# Altium schematic symbol library Nadim Altium Lib-Univ.SchLib: 387 symbols (part 1 of 2)
Pins are listed as number, name and electrical type; pins without a type are passive.

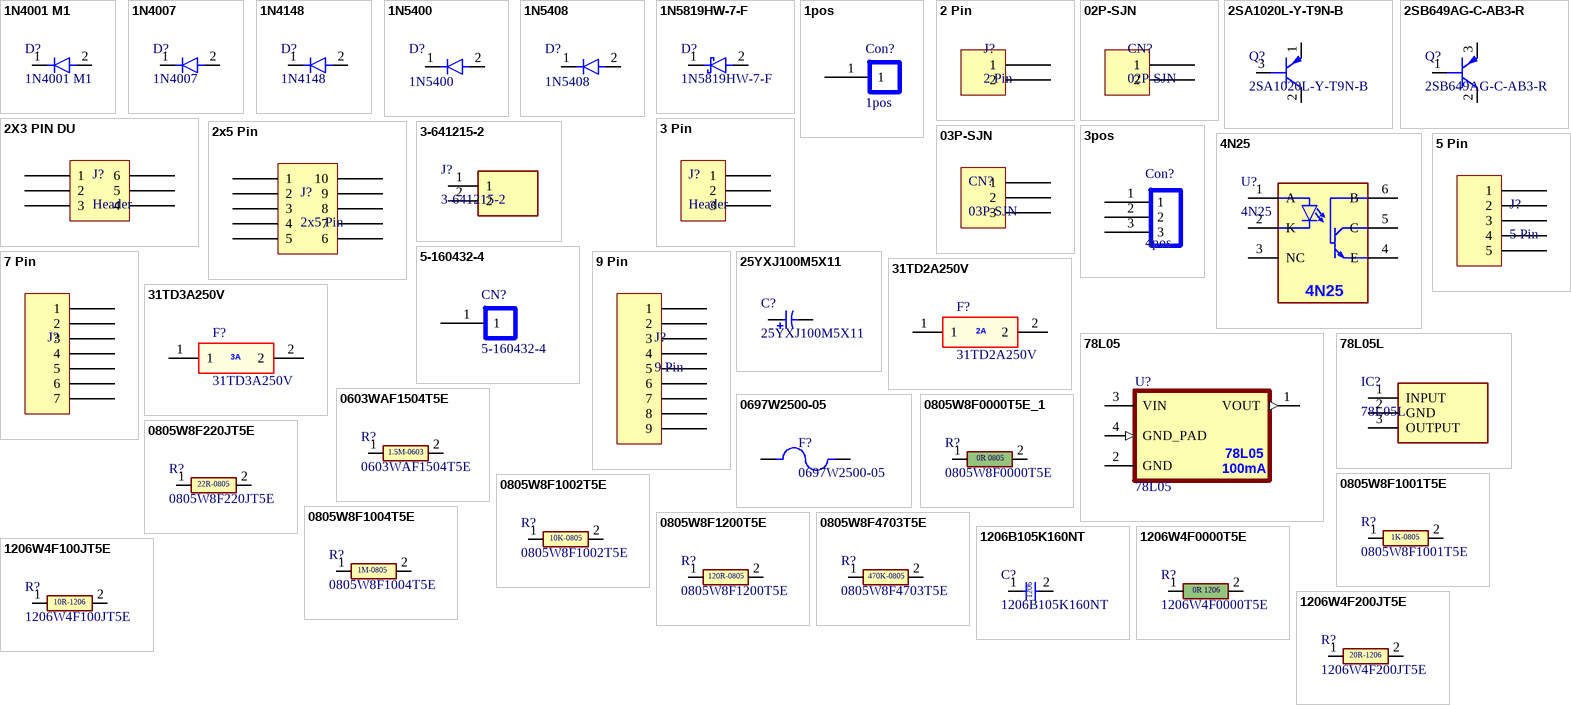
[diagram p0: symbols 1N4001 M1 to 1206W4F200JT5E]

## 1N4001 M1
designator D?
DIODE: SMD 1A 1V@1A 50V SMA Diodes - General Purpose ROHS; LCSC Part #: C20754789
footprint SOD-123F-2 (SODFL3617X108N)
pins: 1, 2

## 1N4007
designator D?
DIODE: GEN SMALL SGNL DIODE DO35 100V 175C / DO-35; Manufacturer: ON Semiconductor / Fairchild; Manufacturer Part Number: 1N4148; Forward Current: 300mA; Reverse Recovery Time: 4ns; Max Reverse Current: 5uA; Value: 4pF; Polarity: Standard; Current Rating: 200mA; Peak Non-Repetitive Surge Current: 4A; Supplier: Digikey; Supplier Part Number: 1N4148FS-ND; RoHS: Yes; Category: Rectifier Diodes; Stock: 271545; Pricing: 1=0.1, 10=0.039, 100=0.0261, 500=0.01972, 1000=0.0175, 2000=0.01557, 5000=0.0134, 10000=0.01202, 50000=0.00953 (USD); Mounting Technology: Through Hole; Case/Package: DO-35; Pins: 2; Min Operating Temperature: -65°C; Max Operating Temperature: 175°C; Packaging: Bulk; Max Repetitive Reverse Voltage (Vrrm): 100V; Voltage Rating (DC): 100V; Output Current: 200mA; Voltage: 100V; Current: 4A; Diameter: 1.91mm; Length: 4.56mm; Width: 1.91mm; Height: 1.91mm; RoHS Compliant: Yes; LCSC PART #: Lead Free; ComponentLink1URL: https://datasheet.ciiva.com/27049/743285-27049708.pdf?src-supplier=Jameco; ComponentLink1Description: https://datasheet.ciiva.com/27049/743285-27049708.pdf?src-supplier=Jameco
footprint DO-35-2
pins: 1, 2

## 1N4148
designator D?
DIODE: GEN SMALL SGNL DIODE DO35 100V 175C / DO-35; Manufacturer: ON Semiconductor / Fairchild; Forward Current: 300mA; Reverse Recovery Time: 4ns; Max Reverse Current: 5uA; Value: 4pF; Polarity: Standard; Current Rating: 200mA; Peak Non-Repetitive Surge Current: 4A; Supplier: Digikey; Supplier Part Number: 1N4148FS-ND; Manufacturer Part Number: 1N4148; RoHS: Yes; Category: Rectifier Diodes; Stock: 271545; Pricing: 1=0.1, 10=0.039, 100=0.0261, 500=0.01972, 1000=0.0175, 2000=0.01557, 5000=0.0134, 10000=0.01202, 50000=0.00953 (USD); Mounting Technology: Through Hole; Case/Package: DO-35; Pins: 2; Min Operating Temperature: -65°C; Max Operating Temperature: 175°C; Packaging: Bulk; Max Repetitive Reverse Voltage (Vrrm): 100V; Voltage Rating (DC): 100V; Output Current: 200mA; Voltage: 100V; Current: 4A; Diameter: 1.91mm; Length: 4.56mm; Width: 1.91mm; Height: 1.91mm; RoHS Compliant: Yes; LCSC PART #: Lead Free; ComponentLink1URL: https://datasheet.ciiva.com/27049/743285-27049708.pdf?src-supplier=Jameco; ComponentLink1Description: https://datasheet.ciiva.com/27049/743285-27049708.pdf?src-supplier=Jameco
pins: 1, 2

## 1N5400
designator D?
DIODE: GEN 3A 1V@3A 1kV DO-201AD TH; LCSC PART #: C5359861
footprint DO-201AD TH
pins: 1, 2

## 1N5408
designator D?
DIODE: GEN 3A 1.2V@3A 1kV DO-201AD TH; LCSC PART #: C36138
footprint DO-201AD TH
pins: 1, 2

## 1N5819HW-7-F
designator D?
DIODE: SCHOTTKY 40V 450mV@1A 1A SOD-123 Schottky Diodes ROHS; LCSC PART #: C82544
footprint SOD-123F-2 (SODFL3617X108N)
pins: 1, 2

## 1pos
designator Con?
footprint 1pos
pins: 1

## 2 Pin
designator J?
pins: 1, 2

## 02P-SJN
designator CN?
HOUSING: 2mm 1x2P 2 1 P=2mm Housings (Wire To Board / Wire To Wire ) ROHS; LCSC Part #: C398486
pins: 1, 2

## 2SA1020L-Y-T9N-B
designator Q?
TRANSISTOR TH: PNP 50V 900mW 2A PNP Bipolar (BJT) / TO-92-3; LCSC PART #: C2848652
footprint TO-92-3
pins: 1 E, 2 C, 3 B

## 2SB649AG-C-AB3-R
designator Q?
TRANSISTOR SMD: PNP 160V 500mW 1A PNP Bipolar (BJT) / SOT-89; LCSC PART #: C87883
footprint SOT-89
pins: 1 B, 2 C, 3 E

## 2X3 PIN DU
designator J?, comment Header
footprint LS-2.57 2*3
pins: 1, 2, 3, 4, 5, 6

## 2x5 Pin
designator J?
footprint 2*5 PIN (Pitch 2.54 mm, THT, Vertical, dual row, 10p)
pins: 1, 2, 3, 4, 5, 6, 7, 8, 9, 10

## 3 Pin
designator J?, comment Header
pins: 1, 2, 3

## 3-641215-2
designator J?
HEADER: JST 2P 2.54MM; Manufacturer_Name: TE Connectivity; Datasheet Link: http://www.te.com/usa-en/product-3-641215-2.html#guest-click; Height: 8.128mm; Manufacturer_Part_Number: 3-641215-2; Mouser Part Number: 571-3-641215-2; Mouser Price/Stock: https://www.mouser.co.uk/ProductDetail/TE-Connectivity-AMP/3-641215-2?qs=KRfK61YovsgAMFXR0HUBMw%3D%3D; Arrow Part Number: 3-641215-2; Arrow Price/Stock: https://www.arrow.com/en/products/3-641215-2/te-connectivity?region=europe
footprint JST 2P 2.54MM
pins: 1, 2

## 03P-SJN
designator CN?
HOUSING: 1*3P 2mm JST; LCSC Part #: C398485
pins: 1, 2, 3

## 3pos
designator Con?, comment 4pos
P2.54mm
footprint 3pos
pins: 1, 2, 3

## 4N25
designator U?
OPTO:; LCSC PART #: C3014309
pins: 1 A, 2 K, 3 NC, 4 E, 5 C, 6 B

## 5 Pin
designator J?
pins: 1, 2, 3, 4, 5

## 5-160432-4
designator CN?
HOUSING CONTACT: BATTERY CONNECTOR FEMALE; LCSC Part #: C392632
pins: 1

## 7 Pin
designator J?
pins: 1, 2, 3, 4, 5, 6, 7

## 9 Pin
designator J?
pins: 1, 2, 3, 4, 5, 6, 7, 8, 9

## 25YXJ100M5X11
designator C?
CAP: ALUM 100uF 25V 400mΩ@100kHz ±20% 250mA@100kHz Plugin,D5xL11mm Aluminum Electrolytic Capacitors - Leaded ROHS; LCSC Part #: C108360
footprint CAP LS-1.5mm D4 H5
pins: 1, 2

## 31TD2A250V
designator F?
FUSE:  2A Plugin,3.6x10mm Disposable fuses ROHS; LCSC Part #: C529609
footprint Fuse FAN LS-15.8MM (31TD2A250V)
pins: 1, 2
text: 2A

## 31TD3A250V
designator F?
FUSE:  3A Plugin,3.6x10mm Disposable fuses ROHS
footprint Fuse FAN LS-15.8MM (31TD2A250V)
pins: 1, 2
text: 3A

## 78L05
designator U?
LDO: 100mA Fixed 5V Positive electrode 30V SOT-89-3, LDO; LCSC PART #: C347258
footprint SOT89R
pins: 1 VOUT, 2 GND, 3 VIN (power), 4 GND_PAD
text: 100mA

## 78L05L
designator IC?
IC: LDO TH
footprint LM7805  TO254
pins: 1 INPUT, 2 GND, 3 OUTPUT

## 0603WAF1504T5E
designator R?
RES: 1.5M OHM 1% 0.125W 75V 0603; LCSC Part #: C4172
footprint 0805+0603 RES FP
pins: 1, 2
text: 1.5M-0603

## 0697W2500-05
designator F?
Fuse LS-5.08mm 100A 2.5A 350V 72V Plugin Disposable fuses ROHS; LCSC Part #: C3163271
footprint Fuse LS-5.08 (100A 2.5A 350V 72V Plugin Disposable fuses ROHS)
pins: 1, 2

## 0805W8F0000T5E_1
designator R?, comment 0805W8F0000T5E
RES: 0R JUMPER 1/4W 0805; LCSC Part #: C17477
footprint 0805-RES
pins: 1, 2
text: 0R 0805

## 0805W8F220JT5E
designator R?
RES: 22 OHM 1% 1/8W 0805; LCSC Part #: C17561
footprint 0805-RES
pins: 1, 2
text: 22R-0805

## 0805W8F1001T5E
designator R?
RES: 1K OHM 1% 1/8W 0805; LCSC Part #: C17513
footprint 0805-RES
pins: 1, 2
text: 1K-0805

## 0805W8F1002T5E
designator R?
RES: 10K OHM 1% 1/8W 0805; LCSC PART #: C17414
footprint 0805-RES
pins: 1, 2
text: 10K-0805

## 0805W8F1004T5E
designator R?
RES: 1M OHM 1% .150V 0805; LCSC Part #: C17514
footprint 0805-RES
pins: 1, 2
text: 1M-0805

## 0805W8F1200T5E
designator R?
RES: 120 OHM 1% 1/8W 0805; LCSC PART #: C17437
footprint 0805-RES
pins: 1, 2
text: 120R-0805

## 0805W8F4703T5E
designator R?
RES: 470K OHM 1% 1/8W 0805; LCSC Part #: C17709
footprint 0805-RES
pins: 1, 2
text: 470K-0805

## 1206B105K160NT
designator C?
CAP: 1uF 16V 10% X7R 1206; LCSC Part #: C913959
footprint 1206-CAP
pins: 1, 2
text: 1206

## 1206W4F0000T5E
designator R?
RES: 0R JUMPER 1/4W 1206; LCSC Part #: C17888
footprint 1206-RES
pins: 1, 2
text: 0R 1206

## 1206W4F100JT5E
designator R?
RES: 10 OHM 1% 1/4W 1206; LCSC PART #: C17903
footprint 1206-RES
pins: 1, 2
text: 10R-1206

## 1206W4F200JT5E
designator R?
RES: 20 OHM 1% 1/4W 1206; LCSC Part #: C17955
footprint 1206-RES
pins: 1, 2
text: 20R-1206

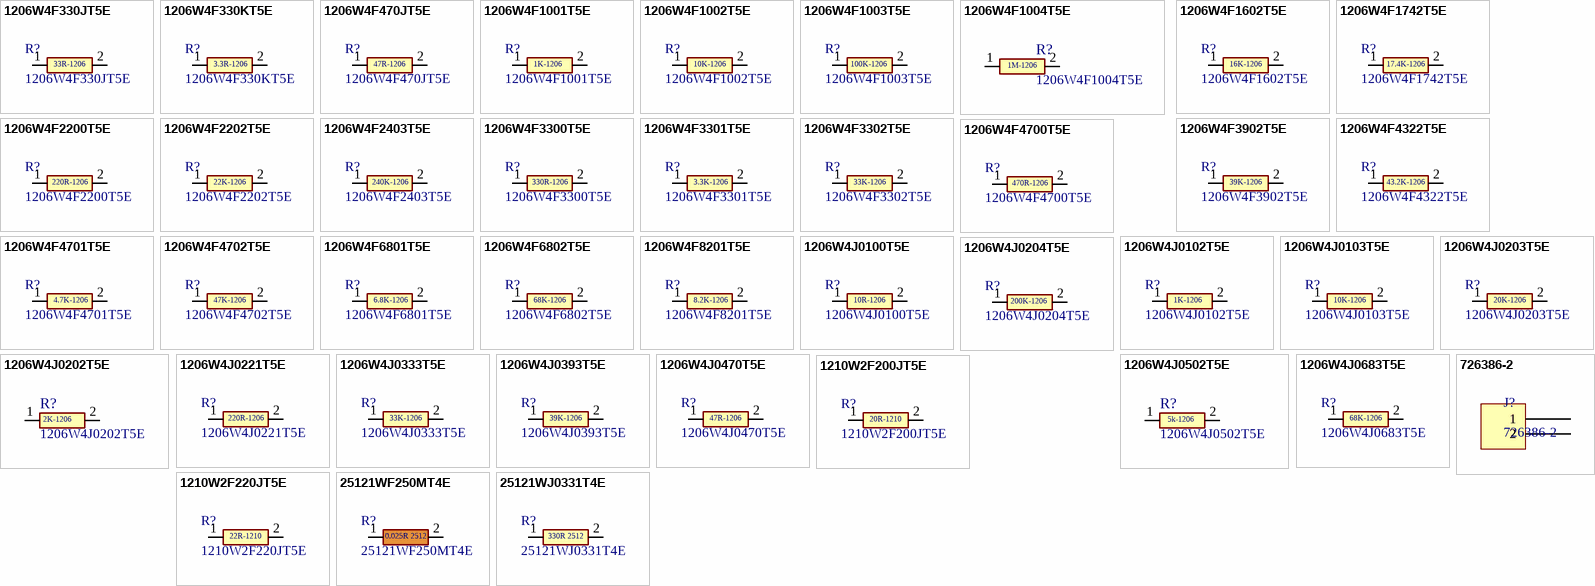
[diagram p1: symbols 1206W4F330JT5E to 726386-2]

## 1206W4F330JT5E
designator R?
RES: 33 OHM 1% 1/4W 1206; LCSC Part #: C18005
footprint 1206-RES
pins: 1, 2
text: 33R-1206

## 1206W4F330KT5E
designator R?
RES: 3.3 OHM 1% 1/4W 1206; LCSC Part #: C17945
footprint 1206-RES
pins: 1, 2
text: 3.3R-1206

## 1206W4F470JT5E
designator R?
RES: 47 OHM 1% 1/4W 1206; LCSC Part #: C17969
footprint 1206-RES
pins: 1, 2
text: 47R-1206

## 1206W4F1001T5E
designator R?
RES: 1K OHM 1% 1/4W / 1206; LCSC Part #: C4410
footprint 1206-RES
pins: 1, 2
text: 1K-1206

## 1206W4F1002T5E
designator R?
RES: 10K OHM 1% 1/4W 1206; LCSC PART #: C17902
footprint 1206-RES
pins: 1, 2
text: 10K-1206

## 1206W4F1003T5E
designator R?
RES: 100K OHM 1% 1/4W 1206; LCSC Part #: C17900
footprint 1206-RES
pins: 1, 2
text: 100K-1206

## 1206W4F1004T5E
designator R?
RES: 1MΩ 1% 1/4W 200V 1206; LCSC Part #: C17927
footprint 1206-RES
pins: 1, 2
text: 1M-1206

## 1206W4F1602T5E
designator R?
RES: 16K Ω 1% 1/4W 1206; LCSC Part #: C25829
footprint 1206-RES
pins: 1, 2
text: 16K-1206

## 1206W4F1742T5E
designator R?
RES: 17.4K Ω 1% 1/4W 1206; LCSC Part #: C247365
footprint 1206-RES
pins: 1, 2
text: 17.4K-1206

## 1206W4F2200T5E
designator R?
RES: 220 OHM 1% 1/4W 1206; LCSC PART #: C17957
footprint 1206-RES
pins: 1, 2
text: 220R-1206

## 1206W4F2202T5E
designator R?
RES: 22K OHM 1% 1/4W 1206; LCSC Part #: C25830
footprint 1206-RES
pins: 1, 2
text: 22K-1206

## 1206W4F2403T5E
designator R?
RES: 240K OHM 1% 1/4W 1206; LCSC Part #: C18001
footprint 1206-RES
pins: 1, 2
text: 240K-1206

## 1206W4F3300T5E
designator R?
RES: 330 OHM 1% 1/4W 1206; LCSC Part #: C17930
footprint 1206-RES
pins: 1, 2
text: 330R-1206

## 1206W4F3301T5E
designator R?
RES: 3.3K OHM 1% 1/4W 1206; LCSC Part #: C26032
footprint 1206-RES
pins: 1, 2
text: 3.3K-1206

## 1206W4F3302T5E
designator R?
RES: 33K OHM 1% 1/4W 1206; LCSC Part #: C18004
footprint 1206-RES
pins: 1, 2
text: 33K-1206

## 1206W4F3902T5E
designator R?
RES: 39K OHM 1% 1/4W 1206; LCSC Part #: C18008
footprint 1206-RES
pins: 1, 2
text: 39K-1206

## 1206W4F4322T5E
designator R?
RES: 43.2K OHM 1% 1/4W 1206; LCSC Part #: C17966
footprint 1206-RES
pins: 1, 2
text: 43.2K-1206

## 1206W4F4700T5E
designator R?
RES: 470 OHM 1% 1/4W 1206; LCSC Part #: C4502
footprint 1206-RES
pins: 1, 2
text: 470R-1206

## 1206W4F4701T5E
designator R?
RES: 4.7K OHM 1% 1/4W 1206; LCSC Part #: C17936
footprint 1206-RES
pins: 1, 2
text: 4.7K-1206

## 1206W4F4702T5E
designator R?
RES: 47K OHM 1% 1/4W 1206; LCSC Part #: C25833
footprint 1206-RES
pins: 1, 2
text: 47K-1206

## 1206W4F6801T5E
designator R?
RES: 6.8k OHM 1% 1/4W 1206; LCSC Part #: C26034
footprint 1206-RES
pins: 1, 2
text: 6.8K-1206

## 1206W4F6802T5E
designator R?
RES: 68K OHM 1% 1/4W 1206; LCSC Part #: C25834
footprint 1206-RES
pins: 1, 2
text: 68K-1206

## 1206W4F8201T5E
designator R?
RES: 8.2K OHM 1% 1/4W 1206; LCSC Part #: C18027
footprint 1206-RES
pins: 1, 2
text: 8.2K-1206

## 1206W4J0100T5E
designator R?
RES: 10 OHM 5% 1/4W 1206; LCSC PART #: C25349
footprint 1206-RES
pins: 1, 2
text: 10R-1206

## 1206W4J0102T5E
designator R?
RES: 1K OHM 5% 1/4W 1206; LCSC Part #: C1469
footprint 1206-RES
pins: 1, 2
text: 1K-1206

## 1206W4J0103T5E
designator R?
RES: 10K OHM 5% 1/4W 1206; LCSC PART #: C1489
footprint 1206-RES
pins: 1, 2
text: 10K-1206

## 1206W4J0202T5E
designator R?
RES: 2K OHM 5% 1/4W 1206; LCSC Part #: C25657
footprint 1206-RES
pins: 1, 2
text: 2K-1206

## 1206W4J0203T5E
designator R?
RES: 20K OHM 5% 1/4W 1206; LCSC Part #: C25652
footprint 1206-RES
pins: 1, 2
text: 20K-1206

## 1206W4J0204T5E
designator R?
RES: 200K OHM 5% 1/4W 1206; LCSC Part #: C37862
footprint 1206-RES
pins: 1, 2
text: 200K-1206

## 1206W4J0221T5E
designator R?
RES: 220 OHM 5% 1/4W 1206; LCSC PART #: C25363
footprint 1206-RES
pins: 1, 2
text: 220R-1206

## 1206W4J0333T5E
designator R?
RES: 33K OHM 5% 1/4W 1206; LCSC Part #: C25660
footprint 1206-RES
pins: 1, 2
text: 33K-1206

## 1206W4J0393T5E
designator R?
RES: 39K OHM 5% 1/4W 1206; LCSC Part #: C270897
footprint 1206-RES
pins: 1, 2
text: 39K-1206

## 1206W4J0470T5E
designator R?
RES: 47 OHM 5% 1/4W 1206; LCSC Part #: C25384
footprint 1206-RES
pins: 1, 2
text: 47R-1206

## 1206W4J0502T5E
designator R?
RES: 5k OHM 5% 1/4W 1206; LCSC Part #: C2767987
footprint 1206-RES
pins: 1, 2
text: 5k-1206

## 1206W4J0683T5E
designator R?
RES: 68K OHM 5% 1/4W 1206; LCSC Part #: C25668
footprint 1206-RES
pins: 1, 2
text: 68K-1206

## 1210W2F200JT5E
designator R?
RES: 20 OHM 1% 1/4W 1210; LCSC Part #: C620667
footprint 1210-RES
pins: 1, 2
text: 20R-1210

## 1210W2F220JT5E
designator R?
RES: 22 OHM 1% 0.5W 1210; LCSC Part #: C99151
footprint 1210-RES
pins: 1, 2
text: 22R-1210

## 25121WF250MT4E
designator R?
RES: 0.025 OHM(25mR) 1% 1W 2512; LCSC Part #: C620826
footprint 2512 RES (RESC6432X70N)
pins: 1, 2
text: 0.025R 2512

## 25121WJ0331T4E
designator R?
RES: 330 OHM 1% 1W 2512; LCSC Part #: C19866
footprint 2512 RES (RESC6432X70N)
pins: 1, 2
text: 330R 2512

## 726386-2
designator J?
CONNECTOR: Plugin SMD Quick Terminal ROHS; LCSC Part #: C305817
footprint 2 Hole Pin Battery (1.5mm)
pins: 1, 2

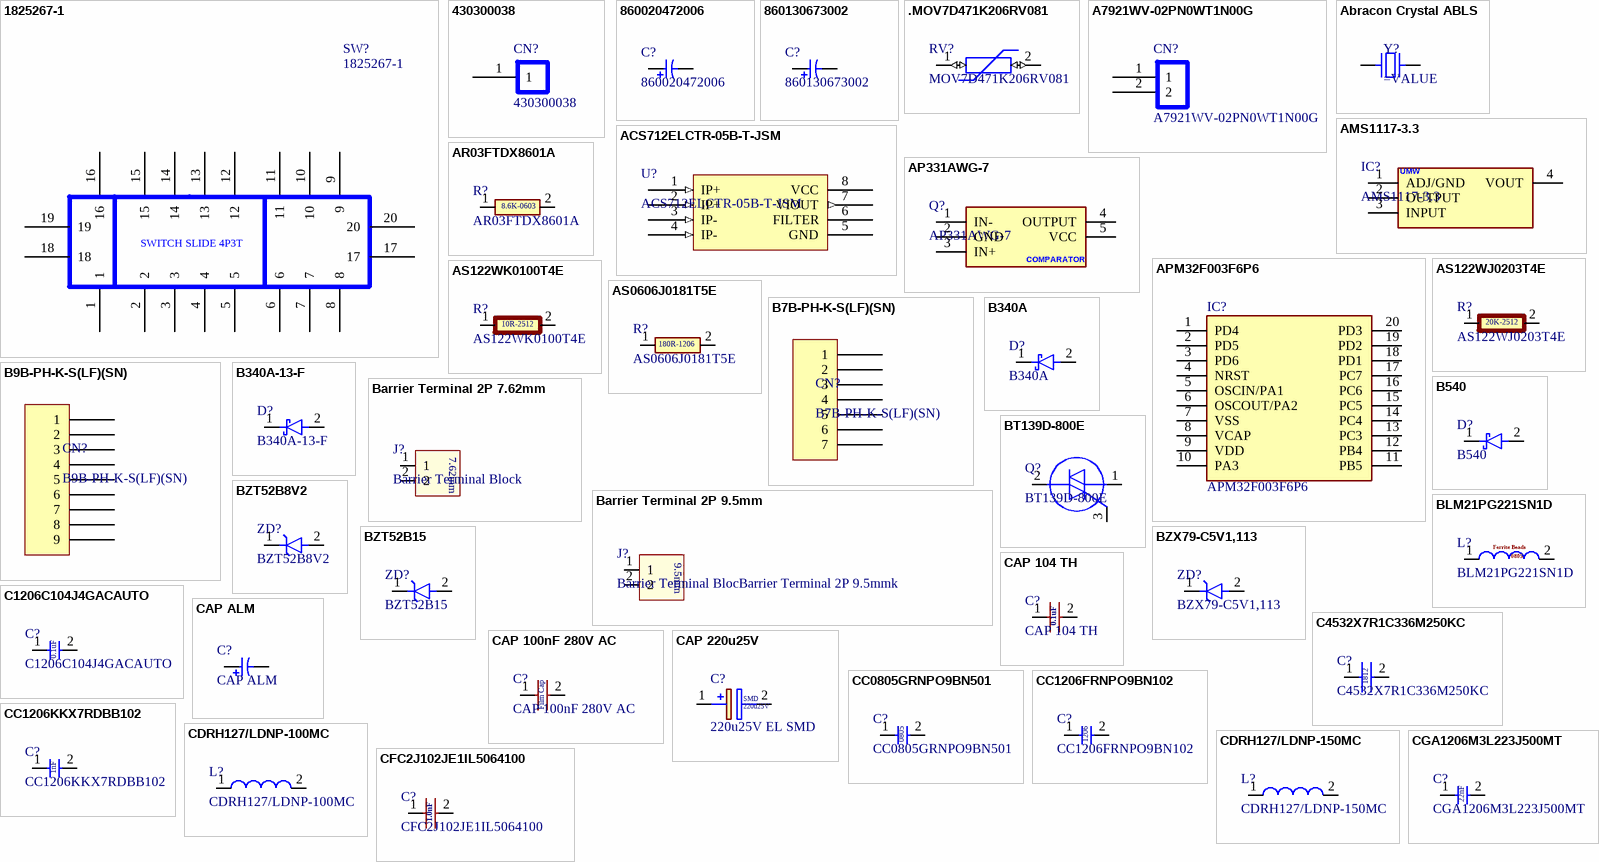
[diagram p2: symbols 1825267-1 to CGA1206M3L223J500MT]

## 1825267-1
designator SW?
SWITCH SLIDE 4P3T 300MA 125V
footprint SW SLIDE 4P3T (SWITCH SLIDE 4P3T 300MA 125V)
pins: 1, 2, 3, 4, 5, 6, 7, 8, 9, 10, 11, 12, 13, 14, 15, 16, 17, 18, 19, 20
text: SWITCH SLIDE 4P3T

## 430300038
designator CN?
CONTACT HOUSING : 18 AWG; LCSC Part #: C259772
pins: 1

## 860020472006
designator C?
CAP: ALUM 47UF 20% 25V RADIAL TH / LS-2.0mm D5 H12.5
footprint CAP LS-2.0mm D5 H7 (CAP LS-2mm D5)
pins: N, P

## 860130673002
designator C?
CAP: ALUM 22UF 20% 50V RADIAL TH / LS-2.5mm D6.3 H12.5; ComponentLink1Description: New link; ComponentLink1URL: *
footprint CAP LS-2.5mm D6.3 H7
pins: N, P

## .MOV7D471K206RV081
designator RV?, comment MOV7D471K206RV081
47 V 250 A Varistor 1 Circuit Through Hole Disc 7mm; LCSC Part #: C22390367
footprint .MOV-07DXXXK(3.9T)
pins: 1 (io), 2 (io)

## A7921WV-02PN0WT1N00G
designator CN?
CONNECTOR: 1x2P 2P 1 7.92mm 7A; LCSC Part #: C476952
footprint LS-7.92*2
pins: 1, 2

## Abracon Crystal ABLS
designator Y?
SMT Crystal
pins: 1, 2

## ACS712ELCTR-05B-T-JSM
designator U?
IC SENSOR: 5A SOP-8 Current Sensors ROHS; LCSC Part #: C19673779
footprint SOP-8 (SOIC127P650X180-8N)
pins: 1 IP+ (in), 2 IP+ (in), 3 IP- (in), 4 IP- (in), 5 GND (power), 6 FILTER, 7 VIOUT (out), 8 VCC (power)

## AMS1117-3.3
designator IC?
LDO: REG 3.3V 1A SOT223; LCSC PART #: C347222
footprint SOT-223 SMD
pins: 1 ADJ/GND, 2 OUTPUT, 3 INPUT, 4 VOUT
text: UMW

## AP331AWG-7
designator Q?
IC COMPARATOR 1 GEN PUR SOT25-5; LCSC Part #: C151034
footprint SOT-25-5
pins: 1 IN-, 2 GND, 3 IN+, 4 OUTPUT, 5 VCC
text: COMPARATOR

## APM32F003F6P6
designator IC?
MCU: 32KB ARM-MSeries 4KB 32KB TSSOP-20 Microcontroller Units (MCUs/MPUs/SOCs) ROHS; LCSC Part #: C22388660
footprint TSSOP-20
pins: 1 PD4, 2 PD5, 3 PD6, 4 NRST, 5 OSCIN/PA1, 6 OSCOUT/PA2, 7 VSS (power), 8 VCAP, 9 VDD (power), 10 PA3, 11 PB5, 12 PB4, 13 PC3, 14 PC4, 15 PC5, 16 PC6, 17 PC7, 18 PD1, 19 PD2, 20 PD3

## AR03FTDX8601A
designator R?
RES: 8.6K OHM 1% 100mW / 0603; LCSC Part #: C2924154
footprint 0805+0603 RES FP
pins: 1, 2
text: 8.6K-0603

## AS122WJ0203T4E
designator R?
RES: 20K OHM 5% 2W, 500V 2512; LCSC Part #: C2770485
footprint 2512 RES (RESC6432X70N)
pins: 1, 2
text: 20K-2512

## AS122WK0100T4E
designator R?
RES: 10 OHM 10% 2W, 500V / 2512; LCSC Part #: C2770565
footprint 2512 RES (RESC6432X70N)
pins: 1, 2
text: 10R-2512

## AS0606J0181T5E
designator R?
RES: 180R 5% 0.6W / 1206; LCSC Part #: C966077
footprint 1206-RES
pins: 1, 2
text: 180R-1206

## B7B-PH-K-S(LF)(SN)
designator CN?
CONNECTOR: 1x7P 7P PH Tin 7 -25℃~+85℃ 2A 1 2mm Brass Direct Insert Plugin,P=2mm Wire To Board Connector ROHS; LCSC Part #: C157981
footprint JST B7B-PH-K (2.0mm)
pins: 1, 2, 3, 4, 5, 6, 7

## B9B-PH-K-S(LF)(SN)
designator CN?
CONNECTOR: 1x9P 9P PH Tin 9 -25℃~+85℃ 2A 1 2mm Brass Direct Insert Plugin,P=2mm Wire To Board Connector ROHS; LCSC Part #: C157968
pins: 1, 2, 3, 4, 5, 6, 7, 8, 9

## B340A
designator D?
DIODE: SCHOTTKY 40V 550mV@3A 3A SMA(DO-214AC); LCSC PART #: C64982
footprint SMA (DO-214AC)
pins: 1, 2

## B340A-13-F
designator D?
DIODE: SCHOTTKEY 40V 500mV@3A 3A SMA(DO-214AC); LCSC Part #: C85098
footprint SMA (DO-214AC)
pins: 1, 2

## B540
designator D?
DIODE: SCHOTTKY 40V 550mV@5A 5A / SMC(DO-214AB); LCSC PART #: C6807783
footprint SMC (DO-214AB)
pins: 1, 2

## Barrier Terminal 2P 7.62mm
designator J?, comment Barrier Terminal Block
TERMINAL: 1x2P Corner pin Barrier Block 2 1 7.62mm -40℃~+105℃ 20A 300V Black 12~22 Straight pin Plugin,P=7.62mm; LCSC Part #: C496127
footprint Barrier Terminal 2P (7.62mm)
pins: 1, 2
text: 7.62mm

## Barrier Terminal 2P 9.5mm
designator J?, comment Barrier Terminal BlocBarrier Terminal 2P 9.5mmk
TERMINAL: 1x2P Corner pin Barrier Block 2 1 9.5mm -40℃~+105℃ 20A 300V Black 12~22 Straight pin Plugin,P=7.62mm; LCSC Part #: C395958
footprint Barrier Terminal 2P 9.5mm (7.62mm)
pins: 1, 2
text: 9.5mm

## BLM21PG221SN1D
designator L?
Ferrite Beads: 45mΩ ±25% 220Ω@100MHz 0805 Ferrite Beads ROHS; LCSC Part #: C85840
footprint Ferrite Beads 0805 (Ferrite Beads)
pins: 1, 2
text: Ferrite Beads; 0805

## BT139D-800E
designator Q?
Triac A: 60mA 50mA 800V TO-252 Thyristors (SCR)/Modules ROHS; LCSC Part #: C20617907
footprint TO-263-2 SMD
pins: 1 A1, 2 A2, 3 G

## BZT52B8V2
designator ZD?
DIODE: ZENER 8.2-8.36 V 500mW SOD-123; LCSC Part #: C2904811
footprint SOD-123F-2 (SODFL3617X108N)
pins: 1, 2

## BZT52B15
designator ZD?
DIODE: ZENER 14.7-15.3V 500mW SOD-123; LCSC Part #: C22395570
footprint SOD-123F-2 (SODFL3617X108N)
pins: 1, 2

## BZX79-C5V1,113
designator ZD?
DIODE: ZENER 5.1V DO-204AH(DO-35) Zener Diodes ROHS
footprint DO-35-2
pins: 1, 2

## C1206C104J4GACAUTO
designator C?
CAP: CER 1uF 16V  ±5% 1206; LCSC Part #: C5565983
footprint 1206-CAP
pins: 1, 2
text: 0.1uF

## C4532X7R1C336M250KC
designator C?
CAP: CER 33UF 16V X7R 1812; Manufacturer: TDK; Material: 4241ConductorMaterial; Supplier: Digikey; Supplier Part Number: 445-3924-1-ND; Manufacturer Part Number: C4532X7R1C336M250KC; RoHS: Yes; Category: Ceramic Capacitors; Stock: 28478; Pricing: 1=1.29, 10=0.969, 50=0.8838, 100=0.724 (USD); ComponentLink1URL: https://datasheet.ciiva.com/24216/c4532x7r1c336m250kc-265670-24216445.pdf?src-supplier=Mouser; ComponentLink1Description: https://datasheet.ciiva.com/24216/c4532x7r1c336m250kc-265670-24216445.pdf?src-supplier=Mouser; ComponentLink2URL: https://datasheet.ciiva.com/11788/0900766b80c1bb00-11788320.pdf?src-supplier=Rs; ComponentLink2Description: https://datasheet.ciiva.com/11788/0900766b80c1bb00-11788320.pdf?src-supplier=Rs; ComponentLink3URL: https://datasheet.ciiva.com/28563/1571323-28563083.pdf?src-supplier=Element14; ComponentLink3Description: https://datasheet.ciiva.com/28563/1571323-28563083.pdf?src-supplier=Element14; ComponentLink4URL: https://datasheet.ciiva.com/7878/1571323-7878142.pdf?src-supplier=Element14; ComponentLink4Description: https://datasheet.ciiva.com/7878/1571323-7878142.pdf?src-supplier=Element14; ComponentLink5URL: https://datasheet.ciiva.com/6284/tdkmlcccaprange-6284343.pdf?src-supplier=Digikey; ComponentLink5Description: https://datasheet.ciiva.com/6284/tdkmlcccaprange-6284343.pdf?src-supplier=Digikey; ComponentLink6URL: https://datasheet.ciiva.com/6284/tdkmlcccaprange-6284345.pdf?src-supplier=Digikey; ComponentLink6Description: https://datasheet.ciiva.com/6284/tdkmlcccaprange-6284345.pdf?src-supplier=Digikey; ComponentLink7URL: https://datasheet.ciiva.com/6284/tdkmlcccaprange-6284346.pdf?src-supplier=Digikey; ComponentLink7Description: https://datasheet.ciiva.com/6284/tdkmlcccaprange-6284346.pdf?src-supplier=Digikey; ComponentLink8URL: https://datasheet.ciiva.com/26834/getdatasheetpartid-707642-26834503.pdf?src-supplier=Verical; ComponentLink8Description: https://datasheet.ciiva.com/26834/getdatasheetpartid-707642-26834503.pdf?src-supplier=Verical
footprint 1812-CAP
pins: 1, 2
text: 1812

## CAP 100nF 280V AC
designator C?
CAP: Film 100NF(0.1uF) 280V AC / LS-15MM
footprint CAP 470nF 275V AC
pins: 1, 2
text: Film Cap

## CAP 104 TH
designator C?
CAP CER: 0.1uF TH, LS-5MM
pins: 1, 2
text: 0.1uF

## CAP 220u25V
designator C?, comment 220u25V EL SMD
CAP SMD: 220uF 25V; LCSC PART #: C4747974
footprint CAP SMD D6.3XL7.7MM FP
pins: 1 +, 2 -
text: SMD; 220u25V

## CAP ALM
designator C?
CAP: ALUM
footprint CAP LS-1.5mm D4 H5
pins: 1, 2

## CC0805GRNPO9BN501
designator C?
CAP CER: 50V 500pF C0G ±2% 0805; LCSC Part #: C3885951
footprint 0805-CAP
pins: 1, 2
text: 0805

## CC1206FRNPO9BN102
designator C?
CAP CER: 50V 1nF NP0 ±1% 1206; LCSC Part #: C541590
footprint 1206-CAP
pins: 1, 2
text: 1206

## CC1206KKX7RDBB102
designator C?
CAP: CER 1KV 1nF ±5% 1206; LCSC Part #: C23631
footprint 1206-CAP
pins: 1, 2
text: 1nF

## CDRH127/LDNP-100MC
designator L?
INDUCTOR: 10UH 6.7A 19.5MOHM SM / SMD LS-10MM D12X12; LCSC PART #: C167261
footprint INDUCTOR LS-10 D12X12 (INDUCTOR 12X12, 10MM)
pins: 1, 2

## CDRH127/LDNP-150MC
designator L?
INDUCTOR: 15UH 5.65A 26.4MOHM SM / SMD LS-10MM D12X12; Manufacturer: Sumida; Core Material: Ferrite; Tolerance: 20%; Shielding: Shielded; DC Resistance (DCR): 26.4mR; Test Frequency: 1kHz; Max DC Current: 4.5A; Supplier: Digikey; Supplier Part Number: 308-1333-1-ND; Manufacturer Part Number: CDRH127/LDNP-150MC; RoHS: Yes; Category: Fixed Inductors; Stock: 116662; Pricing: 1=1.32, 10=1.024, 25=0.9256, 50=0.8576, 100=0.7944, 250=0.7178 (USD); Mounting Technology: Surface Mount; Case/Package: Nonstandard; Min Operating Temperature: -40°C; Max Operating Temperature: 100°C; Packaging: Tape and Reel; Package Quantity: 500; Value: 15UH; Termination: SMD/SMT; DC Current: 5.65A; Series: CDRH127/LD; Length: 12.3mm; Width: 12.3mm; Height: 8mm; Depth: 12.3mm; Radiation Hardening: No; Military Standard: Not; Lead Free: Lead Free; ComponentLink1URL: https://datasheet.ciiva.com/18168/getdatasheetpartid-355115-18168734.pdf?src-supplier=Verical; ComponentLink1Description: https://datasheet.ciiva.com/18168/getdatasheetpartid-355115-18168734.pdf?src-supplier=Verical
footprint INDUCTOR LS-10 D12X12 (INDUCTOR 12X12, 10MM)
pins: 1, 2

## CFC2J102JE1IL5064100
designator C?
CAP Film: 1nF 630V ±5% Plugin,P=10mm Polypropylene Film Capacitors (CBB) / LS-10mm; LCSC Part #: C2763985
footprint Film Capacitor LS-10MM
pins: 1, 2
text: 1.0nF

## CGA1206M3L223J500MT
designator C?
CAP: CER 22nF 50V 5% 1206; LCSC Part #: C22440587
footprint 1206-CAP
pins: 1, 2
text: 22nF

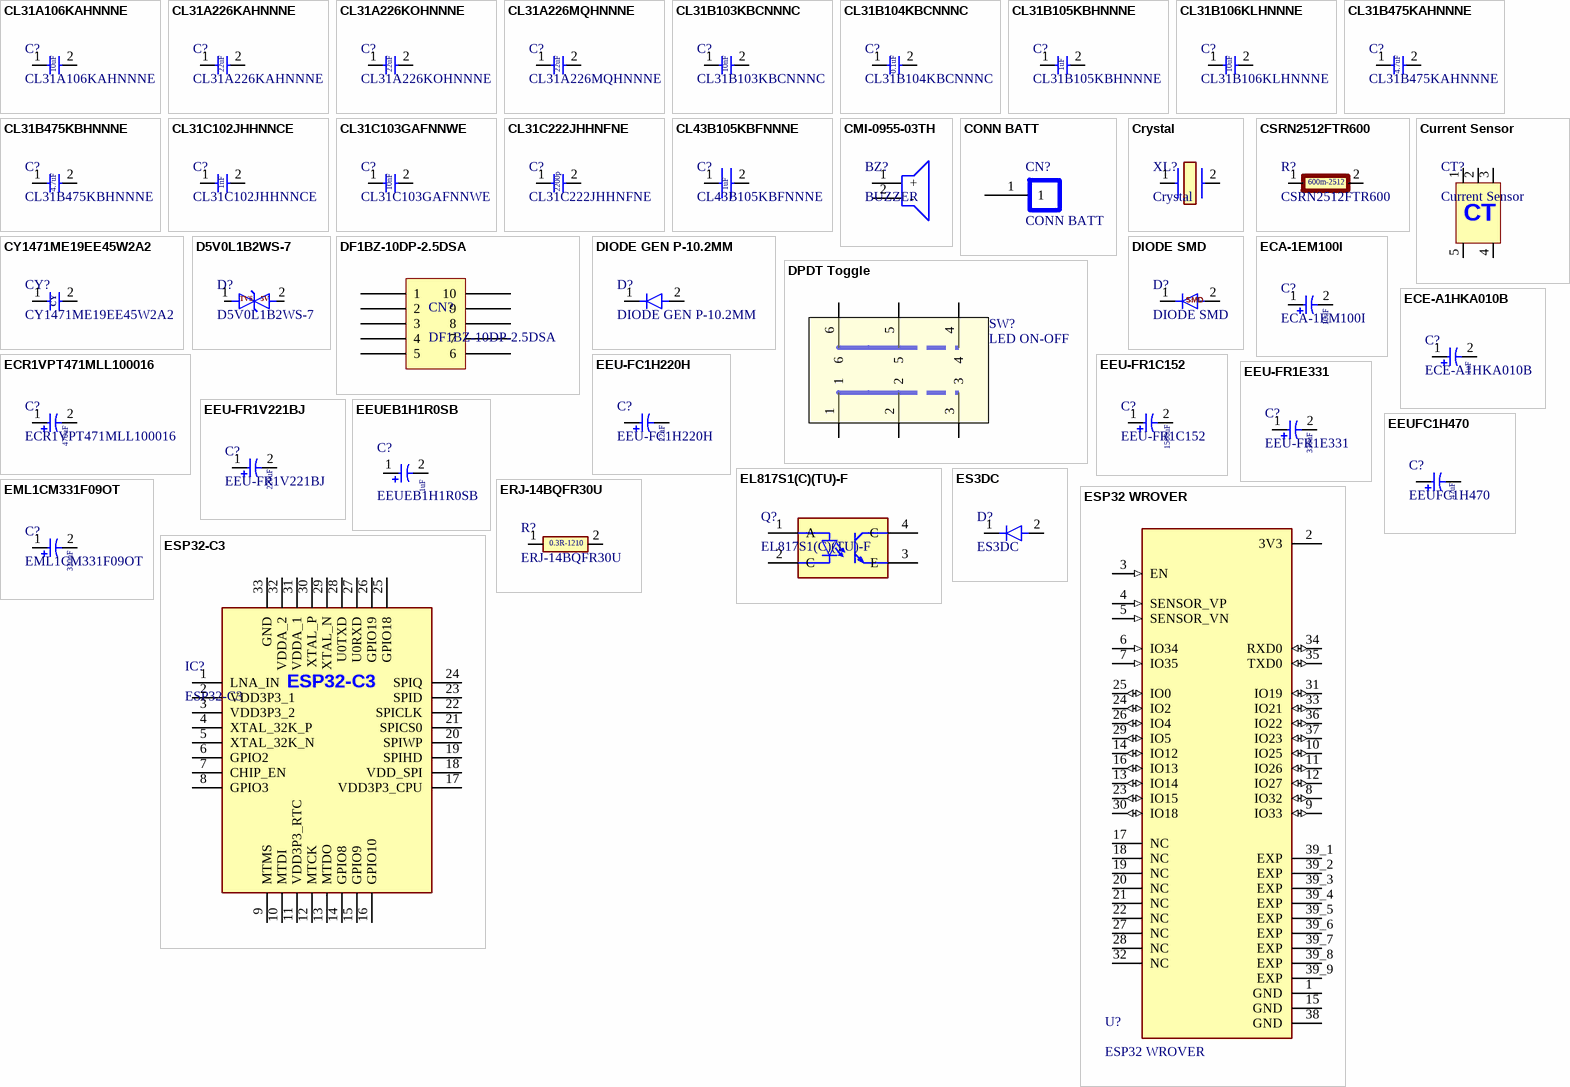
[diagram p3: symbols CL31A106KAHNNNE to ESP32-C3]

## CL31A106KAHNNNE
designator C?
CAP: CER 10UF 50V X7R 1206; Manufacturer: Samsung; Material: Ceramic; Tolerance: 10%; Voltage: 25V; Dielectric: X5R; Supplier: Digikey; Supplier Part Number: 1276-1075-1-ND; Manufacturer Part Number: CL31A106KAHNNNE; RoHS: Yes; Category: Ceramic Capacitors; Stock: 497736; Pricing: 1=0.19, 10=0.122, 50=0.077, 100=0.0615, 500=0.04444, 1000=0.03931 (USD); Mounting Technology: Surface Mount; Case/Package: 1206; Case Code (Metric): 3216; Case Code (Imperial): 1206; Min Operating Temperature: -55°C; Max Operating Temperature: 85°C; Value: 10uF; Voltage Rating (DC): 25V; Packaging: Tape and Reel; Voltage Rating: 25V; Series: CL; Construction: Flat; Length: 3.2mm; Height: 1.6mm; Depth: 1.6mm; Radiation Hardening: No; Lead Free: Lead Free; RoHS Compliant: Yes; ComponentLink1URL: https://datasheet.ciiva.com/25710/cl31a106kahnnne-25710837.pdf?src-supplier=Digikey; ComponentLink1Description: https://datasheet.ciiva.com/25710/cl31a106kahnnne-25710837.pdf?src-supplier=Digikey; ComponentLink2URL: https://datasheet.ciiva.com/15195/getdatasheetpartid-355210-15195990.pdf?src-supplier=Verical; ComponentLink2Description: https://datasheet.ciiva.com/15195/getdatasheetpartid-355210-15195990.pdf?src-supplier=Verical
footprint 1206-CAP
pins: 1, 2

## CL31A226KAHNNNE
designator C?
CAP: CER 22UF 25V X5R 1206; Manufacturer: Samsung; Material: Ceramic; Tolerance: 10%; Supplier: Digikey; Supplier Part Number: 1276-3047-1-ND; Manufacturer Part Number: CL31A226KAHNNNE; RoHS: Yes; Category: Ceramic Capacitors; Stock: 1267713; Pricing: 1=0.36, 10=0.239, 50=0.1758, 100=0.1432, 500=0.11304, 1000=0.09545 (USD); Mounting Technology: Surface Mount; Case/Package: 1206; Case Code (Metric): 3216; Case Code (Imperial): 1206; Min Operating Temperature: -55°C; Max Operating Temperature: 85°C; Value: 22uF; Dielectric: X5R; Voltage Rating (DC): 25V; Packaging: Tape and Reel; Voltage Rating: 25V; Series: CL; Construction: Flat; Length: 3.2mm; Height: 1.6mm; Depth: 1.6mm; Radiation Hardening: No; RoHS Compliant: Yes; ComponentLink1URL: https://datasheet.ciiva.com/16437/cl31a226kahnnne-16437213.pdf?src-supplier=Future+Electronics; ComponentLink1Description: https://datasheet.ciiva.com/16437/cl31a226kahnnne-16437213.pdf?src-supplier=Future+Electronics; ComponentLink2URL: https://datasheet.ciiva.com/26838/getdatasheetpartid-359658-26838860.pdf?src-supplier=Verical; ComponentLink2Description: https://datasheet.ciiva.com/26838/getdatasheetpartid-359658-26838860.pdf?src-supplier=Verical; ComponentLink3URL: https://datasheet.ciiva.com/25766/cl31a226kahnnne-25766608.pdf?src-supplier=Digikey; ComponentLink3Description: https://datasheet.ciiva.com/25766/cl31a226kahnnne-25766608.pdf?src-supplier=Digikey; ComponentLink4URL: https://datasheet.ciiva.com/29201/452249-da-01-en-vs-kondensator-1206-29201336.pdf?src-supplier=Conrad; ComponentLink4Description: https://datasheet.ciiva.com/29201/452249-da-01-en-vs-kondensator-1206-29201336.pdf?src-supplier=Conrad
footprint 1206-CAP
pins: 1, 2

## CL31A226KOHNNNE
designator C?
CAP: CER 22UF 16V X5R 1206; LCSC Part #: C90146
footprint 1206-CAP
pins: 1, 2
text: 22uF

## CL31A226MQHNNNE
designator C?
CAP: CER 22UF 6.3V X5R 1206; Manufacturer: Samsung; Supplier: Digikey; Supplier Part Number: 1276-1771-1-ND; Manufacturer Part Number: CL31A226MQHNNNE; RoHS: Yes; Category: Ceramic Capacitors; Stock: 555198; Pricing: 1=0.17, 10=0.113, 50=0.0796, 100=0.0642, 500=0.04772, 1000=0.04175 (USD); ComponentLink1URL: https://datasheet.ciiva.com/25711/cl31a226mqhnnne-25711296.pdf?src-supplier=Digikey; ComponentLink1Description: https://datasheet.ciiva.com/25711/cl31a226mqhnnne-25711296.pdf?src-supplier=Digikey; ComponentLink2URL: https://datasheet.ciiva.com/16427/cl31a226mqhnnne-16427681.pdf?src-supplier=Future+Electronics; ComponentLink2Description: https://datasheet.ciiva.com/16427/cl31a226mqhnnne-16427681.pdf?src-supplier=Future+Electronics
footprint 1206-CAP
pins: 1, 2
text: 22uF

## CL31B103KBCNNNC
designator C?
CAP: CER 10NF 50V X7R 1206; LCSC PART #: C153292
footprint 1206-CAP
pins: 1, 2
text: 10nF

## CL31B104KBCNNNC
designator C?
CAP: CER 0.1UF 50V X7R 1206 / 10%; LCSC Part #: C24497
footprint 1206-CAP
pins: 1, 2
text: 0.1uF

## CL31B105KBHNNNE
designator C?
CAP: CER 1UF 50V X7R 1206; LCSC Part #: C1848
footprint 1206-CAP
pins: 1, 2
text: 1uF

## CL31B106KLHNNNE
designator C?
CAP: CER 10UF 35V X7R 1206; LCSC Part #: C16195875
footprint 1206-CAP
pins: 1, 2
text: 10uF

## CL31B475KAHNNNE
designator C?
CAP: CER 4.7UF 25V X7R 1206
footprint 1206-CAP
pins: 1, 2
text: 4.7uF

## CL31B475KBHNNNE
designator C?
CAP: CER 4.7UF 50V X7R 1206; LCSC Part #: C51205
footprint 1206-CAP
pins: 1, 2
text: 4.7uF

## CL31C102JHHNNCE
designator C?
CAP: CER 1NF 630V C0G/NP0 1206; LCSC Part #: C3853144
footprint 1206-CAP
pins: 1, 2
text: 1nF

## CL31C103GAFNNWE
designator C?
CAP: CER 10NF 25V C0G/NP0 1206; Manufacturer: Samsung; Supplier: Digikey; Supplier Part Number: 1276-3211-1-ND; Manufacturer Part Number: CL31C103GAFNNWE; Case/Package: 1206; ComponentLink1URL: https://datasheet.ciiva.com/25791/cl31c103gafnnwe-25791738.pdf?src-supplier=Digikey; ComponentLink1Description: https://datasheet.ciiva.com/25791/cl31c103gafnnwe-25791738.pdf?src-supplier=Digikey
footprint 1206-CAP
pins: 1, 2
text: 10nF

## CL31C222JHHNFNE
designator C?
CAP: CER 2200PF 630V C0G/NP0 1206; LCSC Part #: C3832138
footprint 1206-CAP
pins: 1, 2
text: 2200p

## CL43B105KBFNNNE
designator C?
CAP: CER 1UF 50V X7R 1812; Manufacturer: Samsung; Material: Ceramic; Tolerance: 10%; Supplier: Digikey; Supplier Part Number: 1276-3359-1-ND; Manufacturer Part Number: CL43B105KBFNNNE; RoHS: Yes; Category: Ceramic Capacitors; Stock: 750; Pricing: 1=1.39, 10=1.046, 50=0.9542, 100=0.7817, 500=0.62386 (USD); Mounting Technology: Surface Mount; Case/Package: 1812; Case Code (Metric): 4532; Case Code (Imperial): 1812; Min Operating Temperature: -55°C; Max Operating Temperature: 125°C; Value: 1uF; Dielectric: X7R; Packaging: Tape and Reel; Voltage Rating: 50V; Voltage: 50V; Voltage Rating (DC): 50V; Series: CL; Construction: Flat; Length: 4.5mm; Height: 1.25mm; Depth: 3.2mm; Radiation Hardening: No; Lead Free: Lead Free; RoHS Compliant: Yes; ComponentLink1URL: https://datasheet.ciiva.com/25769/cl43b105kbfnnne-25769286.pdf?src-supplier=Digikey; ComponentLink1Description: https://datasheet.ciiva.com/25769/cl43b105kbfnnne-25769286.pdf?src-supplier=Digikey; ComponentLink2URL: https://datasheet.ciiva.com/16429/cl43b105kbfnnne-16429001.pdf?src-supplier=Future+Electronics; ComponentLink2Description: https://datasheet.ciiva.com/16429/cl43b105kbfnnne-16429001.pdf?src-supplier=Future+Electronics; ComponentLink3URL: https://datasheet.ciiva.com/29149/450376-da-01-en-vs-kondensator-1812-29149045.pdf?src-supplier=Conrad; ComponentLink3Description: https://datasheet.ciiva.com/29149/450376-da-01-en-vs-kondensator-1812-29149045.pdf?src-supplier=Conrad
footprint 1812-CAP
pins: 1, 2

## CMI-0955-03TH
designator BZ?, comment BUZZER
Buzzer: 3.3V Dia-9mm, LS-5MM
footprint Buzzer LS-5MM
pins: 1 +, 2 -

## CONN BATT
designator CN?
BATTERY CONNECTOR PAD
footprint 1pos
pins: 1

## Crystal
designator XL?
Crystal or Oscillator: 16.666 MHz
footprint Crystal P4.9mm
pins: 1, 2

## CSRN2512FTR600
designator R?
RES: 600m OHM 1% 2W / 2512; LCSC Part #: C2522641
footprint 2512 RES (RESC6432X70N)
pins: 1, 2
text: 600m-2512

## Current Sensor
designator CT?
Transformer: LS-9mm, 12mm, 4.5mm
pins: 1, 2, 3, 4, 5
text: CT

## CY1471ME19EE45W2A2
designator CY?
CAP Safety: 470pF ±20% Y1 400V Plugin,P=10mm Safety Capacitors / LS-10mm; LCSC Part #: C2857401
footprint JN471K LS-10MM (JN471K)
pins: 1, 2
text: CY

## D5V0L1B2WS-7
designator D?
DIODE TVS: 5V WM 14VC Voltage - Breakdown (Min) 6V / SOD323; LCSC Part #: C7529144
footprint SOD-323-2
pins: 1, 2
text: TVS; 5V

## DF1BZ-10DP-2.5DSA
designator CN?
CONNECTOR :2x5P 10P 2 Tin 2.5mm 2.5mm; LCSC Part #: C506701
footprint 2*5 PIN (Pitch 2.54 mm, THT, Vertical, dual row, 10p)
pins: 1, 2, 3, 4, 5, 6, 7, 8, 9, 10

## DIODE GEN P-10.2MM
designator D?
DIODE: GEN P-10.2MM
pins: 1, 2

## DIODE SMD
designator D?
DIODE: DIODE SMD
footprint SMBF (DO-214AA)
pins: 1, 2
text: SMD

## DPDT Toggle
designator SW?, comment LED ON-OFF
SW Vertical Slide Switch DPDT 6 Terminal
footprint SW DPDT (DPDT 6 TERMINAL)
pins: 1, 2, 3, 4, 5, 6

## ECA-1EM100I
designator C?
CAP: ALUM 10UF 20% 25V RADIAL TH / LS 2.5mm / Dia 5mm; Manufacturer: Panasonic; Supplier: Digikey; Supplier Part Number: 10-ECA-1EM100ICT-ND; Manufacturer Part Number: ECA-1EM100I; RoHS: Yes; Category: Aluminum Electrolytic Capacitors; Stock: 8383; Pricing: 1=0.19, 10=0.11, 50=0.0774, 100=0.0673, 500=0.05018, 1000=0.04486 (USD); ComponentLink1URL: https://datasheet.ciiva.com/105/eca-xxmspec-105822.pdf?src-supplier=Digikey; ComponentLink1Description: https://datasheet.ciiva.com/105/eca-xxmspec-105822.pdf?src-supplier=Digikey
footprint CAP LS-2.5mm D5.5 H11 (CAP LS-2.54mm D5.5)
pins: 1, 2
text: 10uF

## ECE-A1HKA010B
designator C?
CAP: ALUM 1UF 20% 50V RADIAL TH / LS 5mm / Dia 4mm; Manufacturer: Panasonic; Ripple Current: 10mA; Life (Hours): 1000Hour; Supplier: Digikey; Supplier Part Number: 10-ECE-A1HKA010BTB-ND; Manufacturer Part Number: ECE-A1HKA010B; RoHS: Yes; Category: Aluminum Electrolytic Capacitors; Pricing: 6000=0.04141 (USD); Mounting Technology: Through Hole; Min Operating Temperature: -40°C; Max Operating Temperature: 85°C; Value: 1uF; Tolerance: 20%; Packaging: Ammo Pack; Package Quantity: 2000; Voltage Rating (DC): 50V; Termination: Radial; Series: KA; Diameter: 4mm; Length: 7mm; Height: 7mm; Lead Pitch: 5mm; Radiation Hardening: No; RoHS Compliant: Yes; ComponentLink1URL: https://datasheet.ciiva.com/24029/a-e-461514-24029598.pdf?src-supplier=Mouser; ComponentLink1Description: https://datasheet.ciiva.com/24029/a-e-461514-24029598.pdf?src-supplier=Mouser; ComponentLink2URL: https://datasheet.ciiva.com/11681/aba0000ce20-11681259.pdf?src-supplier=Avnet; ComponentLink2Description: https://datasheet.ciiva.com/11681/aba0000ce20-11681259.pdf?src-supplier=Avnet
footprint CAP LS-2.5mm D4 H5
pins: 1, 2

## ECR1VPT471MLL100016
designator C?
CAP: ALUM 470UF 20% 35V RADIAL TH; ComponentLink1URL: https://datasheet.ciiva.com/106/aba0000ce26-106653.pdf?src-supplier=Digikey; ComponentLink1Description: https://datasheet.ciiva.com/106/aba0000ce26-106653.pdf?src-supplier=Digikey; ComponentLink2URL: https://datasheet.ciiva.com/11679/aba0000ce26-11679994.pdf?src-supplier=Avnet; ComponentLink2Description: https://datasheet.ciiva.com/11679/aba0000ce26-11679994.pdf?src-supplier=Avnet; LCSC Part #: C190968
footprint CAP LS-3.5mm D8 H11 (CAP LS-3.5mm D8)
pins: 1, 2
text: 470uF

## EEU-FC1H220H
designator C?
CAP: ALUM 22UF 20% 50V RADIAL TH / LS-2.5mm D6.3 H11 / mfg: PANASONIC; LCSC Part #: C1580725
footprint CAP LS-2.5mm D5.5 H11 (CAP LS-2.54mm D5.5)
pins: 1, 2
text: 22uF

## EEU-FR1C152
designator C?
CAP: ALUM 1500UF 20% 16V RADIAL / LS-5, D10, H20; Manufacturer: Panasonic; Dielectric Material: Aluminium; Value: 1.5mF; Ripple Current: 2.18A; ESR (Equivalent Series Resistance): 20mR; Life (Hours): 10000Hour; Lead/Base Style: Straight; Leakage Current: 240uA; Dissipation Factor: 16%; Lead Diameter: 0.6mm; Supplier: Digikey; Supplier Part Number: P14399-ND; Manufacturer Part Number: EEU-FR1C152; RoHS: Yes; Category: Aluminum Electrolytic Capacitors; Stock: 91; Pricing: 1=1.03, 10=0.638, 50=0.4792, 100=0.4297, 500=0.34526, 1000=0.31889, 2500=0.29088, 5000=0.27387 (USD); Mounting Technology: Through Hole,PCB; Case/Package: Radial; Pins: 2; Min Operating Temperature: -40°C; Max Operating Temperature: 105°C; Tolerance: 20%; Packaging: Bulk; Voltage Rating: 16V; Voltage Rating (DC): 16V; Package Quantity: 200; Impedance: 20mR; Termination: Radial; Voltage: 16V; Series: FR; Construction: RADIAL; Diameter: 10mm; Length: 20mm; Height: 20mm; Lead Pitch: 5mm; Radiation Hardening: No; Lead Free: Lead Free; Reach SVHC Compliant: No; RoHS Compliant: Yes; ComponentLink1URL: https://datasheet.ciiva.com/11778/0900766b80e4e9bf-11778301.pdf?src-supplier=Rs; ComponentLink1Description: https://datasheet.ciiva.com/11778/0900766b80e4e9bf-11778301.pdf?src-supplier=Rs; ComponentLink2URL: https://datasheet.ciiva.com/46445/535408-46445692.pdf?src-supplier=Element14; ComponentLink2Description: https://datasheet.ciiva.com/46445/535408-46445692.pdf?src-supplier=Element14; ComponentLink3URL: https://datasheet.ciiva.com/15940/aba0000ce132-15940825.pdf?src-supplier=Onlinecomponents.com; ComponentLink3Description: https://datasheet.ciiva.com/15940/aba0000ce132-15940825.pdf?src-supplier=Onlinecomponents.com; ComponentLink4URL: https://datasheet.ciiva.com/16387/aba0000ce132-16387612.pdf?src-supplier=Future+Electronics; ComponentLink4Description: https://datasheet.ciiva.com/16387/aba0000ce132-16387612.pdf?src-supplier=Future+Electronics
footprint CAP LS-5.0mm D10 H12.5 (CAP LS-5mm D10)
pins: 1, 2
text: 1500uF

## EEU-FR1E331
designator C?
CAP: ALUM 330UF 20% 25V RADIAL TH / LS-3.5mm D8 H13
footprint CAP LS-3.5mm D8 H11 (CAP LS-3.5mm D8)
pins: 1, 2
text: 330uF

## EEU-FR1V221BJ
designator C?
CAP: ALUM 220UF 20% 35V RADIAL TH / LS-5mm D8 H13; LCSC Part #: C5114356
footprint CAP LS-5.0mm D8 H11.5
pins: 1, 2
text: 220uF

## EEUEB1H1R0SB
designator C?
CAP: ALUM 1UF 20% 50V RADIAL / LS 5mm / Dia 5mm; MP: EEU-EB1H1R0SB; MF: Panasonic Electronic Components; Package: RADIAL-2 Panasonic; Price: None; Availability: Not in stock; Check_prices: https://www.snapeda.com/parts/EEU-EB1H1R0SB/Panasonic/view-part/6222296/?ref=eda; SnapEDA_Link: https://www.snapeda.com/parts/EEU-EB1H1R0SB/Panasonic/view-part/6222296/?ref=snap; Value: *
footprint CAP LS-5.0mm D8 H11.5
pins: 1, 2
text: 1uF

## EEUFC1H470
designator C?
CAP: ALUM 47UF 20% 50V RADIAL TH Lead / LS-2.0mm D56.3 H11.2; LCSC Part #: C242141
footprint CAP LS-2.0mm D5 H7 (CAP LS-2mm D5)
pins: 1, 2
text: 47uF

## EL817S1(C)(TU)-F
designator Q?
OPTO: 35V 5kV 50mA 1 9V 1.2V SMD-4P Transistor, Photovoltaic Output Optoisolators ROHS; LCSC PART #: C106900
footprint PC817C SMD-4P (SMD-4P)
pins: 1 A, 2 C, 3 E, 4 C

## EML1CM331F09OT
designator C?
CAP: ALUM 330UF 20% 16V RADIAL TH / LS-3.5mm D8 H13; LCSC Part #: C106445
footprint CAP LS-3.5mm D8 H11 (CAP LS-3.5mm D8)
pins: 1, 2
text: 330uF

## ERJ-14BQFR30U
designator R?
R_SEN: 0.3 OHM 1% 1/2W 1210
footprint 1210-RES
pins: 1, 2
text: 0.3R-1210

## ES3DC
designator D?
DIODE: GEN 3A 200V 1V@3A SMC(DO-214AB); LCSC PART #: C16235
footprint SMC (DO-214AB)
pins: 1, 2

## ESP32 WROVER
designator U?
ESP32: ESP32 WROVER
footprint ESP32-WROVER FP
pins: 1 GND (power), 2 3V3 (power), 3 EN (in), 4 SENSOR_VP (in), 5 SENSOR_VN (in), 6 IO34 (in), 7 IO35 (in), 8 IO32 (io), 9 IO33 (io), 10 IO25 (io), 11 IO26 (io), 12 IO27 (io), 13 IO14 (io), 14 IO12 (io), 15 GND (power), 16 IO13 (io), 17 NC, 18 NC, 19 NC, 20 NC, 21 NC, 22 NC, 23 IO15 (io), 24 IO2 (io), 25 IO0 (io), 26 IO4 (io), 27 NC, 28 NC, 29 IO5 (io), 30 IO18 (io), 31 IO19 (io), 32 NC, 33 IO21 (io), 34 RXD0 (io), 35 TXD0 (io), 36 IO22 (io), 37 IO23 (io), 38 GND (power), 39_1 EXP (power), 39_2 EXP (power), 39_3 EXP (power), 39_4 EXP (power), 39_5 EXP (power), 39_6 EXP (power), 39_7 EXP (power), 39_8 EXP (power), 39_9 EXP (power)

## ESP32-C3
designator IC?
SOC: RISC-V 160MHz QFN-32-EP(5x5) Microcontrollers (MCU/MPU/SOC) ROHS; LCSC Part #: C2838500
footprint QFN-32-EP(5x5) (ESP32-C3 QFN-32-EP(5x5))
pins: 1 LNA_IN, 2 VDD3P3_1, 3 VDD3P3_2, 4 XTAL_32K_P, 5 XTAL_32K_N, 6 GPIO2, 7 CHIP_EN, 8 GPIO3, 9 MTMS, 10 MTDI, 11 VDD3P3_RTC, 12 MTCK, 13 MTDO, 14 GPIO8, 15 GPIO9, 16 GPIO10, 17 VDD3P3_CPU, 18 VDD_SPI, 19 SPIHD, 20 SPIWP, 21 SPICS0, 22 SPICLK, 23 SPID, 24 SPIQ, 25 GPIO18, 26 GPIO19, 27 U0RXD, 28 U0TXD, 29 XTAL_N, 30 XTAL_P, 31 VDDA_1, 32 VDDA_2, 33 GND

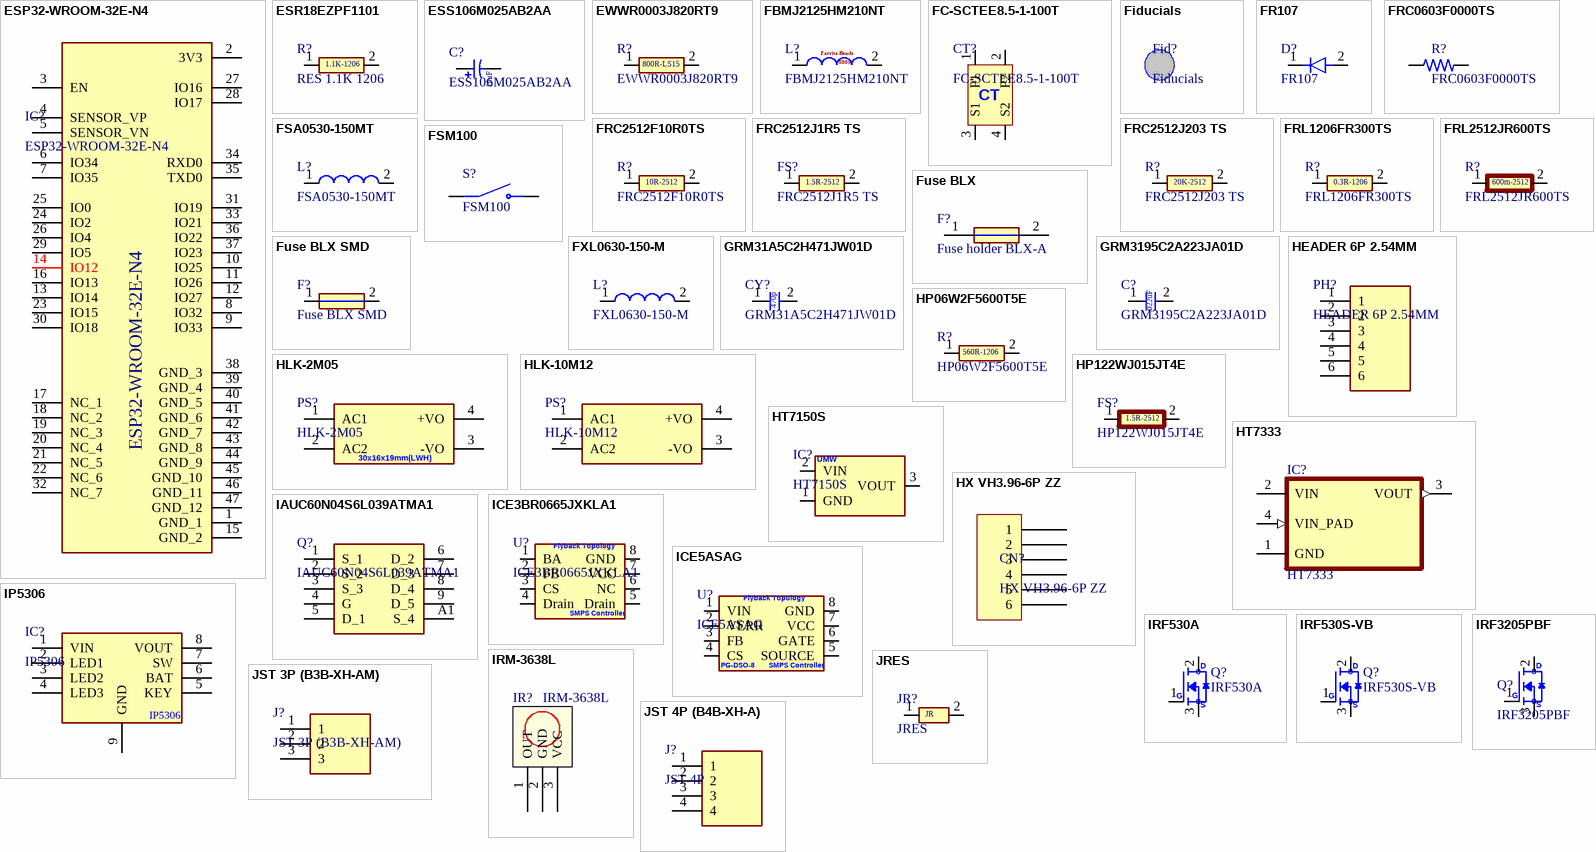
[diagram p4: symbols ESP32-WROOM-32E-N4 to JST 4P (B4B-XH-A)]

## ESP32-WROOM-32E-N4
designator IC?
ESP32: WiFi Modules ROHS; Manufacturer_Name: Espressif Systems; Datasheet Link: https://www.espressif.com/sites/default/files/documentation/esp32-wroom-32e_esp32-wroom-32ue_datasheet_en.pdf; Height: 3.25mm; Manufacturer_Part_Number: ESP32-WROOM-32E-N4; Mouser Part Number: 356-ESP32WRM32E132PH; Mouser Price/Stock: https://www.mouser.co.uk/ProductDetail/Espressif-Systems/ESP32-WROOM-32E-N4?qs=Li%252BoUPsLEnsPzTWsi%252BRMgQ%3D%3D; LCSC Part #: C701341
footprint ESP32WROOM32EN4
pins: 1 GND_1, 2 3V3, 3 EN, 4 SENSOR_VP, 5 SENSOR_VN, 6 IO34, 7 IO35, 8 IO32, 9 IO33, 10 IO25, 11 IO26, 12 IO27, 13 IO14, 14 IO12, 15 GND_2, 16 IO13, 17 NC_1, 18 NC_2, 19 NC_3, 20 NC_4, 21 NC_5, 22 NC_6, 23 IO15, 24 IO2, 25 IO0, 26 IO4, 27 IO16, 28 IO17, 29 IO5, 30 IO18, 31 IO19, 32 NC_7, 33 IO21, 34 RXD0, 35 TXD0, 36 IO22, 37 IO23, 38 GND_3, 39 GND_4, 40 GND_5, 41 GND_6, 42 GND_7, 43 GND_8, 44 GND_9, 45 GND_10, 46 GND_11, 47 GND_12

## ESR18EZPF1101
designator R?, comment RES 1.1K 1206
RES: 1.1K OHM 1% 1/2W 1206
footprint 1206-RES
pins: 1, 2
text: 1.1K-1206

## ESS106M025AB2AA
designator C?
CAP: ALUM 10UF 20% 25V RADIAL TH / LS 1.5mm / Dia 4mm; LCSC Part #: C1019530
footprint CAP LS-1.5mm D4 H5
pins: 1, 2
text: 10uF

## EWWR0003J820RT9
designator R?
RES: TH 820Ω 3 ±5% Plugin,D5.5xL15mm Through Hole Wirewound Resistors; LCSC Part #: C348937
footprint Res_TH 3W_LS20 - duplicate - duplicate (Res_TH 3W)
pins: 1, 2
text: 800R-LS15

## FBMJ2125HM210NT
designator L?
Ferrite Beads:
footprint Ferrite Beads
pins: 1, 2
text: Ferrite Beads; 0805

## FC-SCTEE8.5-1-100T
designator CT?
Transformer: CT 15A, LS-9mm, 19mm, 4mm; LCSC Part #: C2990853
pins: 1 P1, 2 P2, 3 S1, 4 S2
text: CT

## Fiducials
designator Fid?
footprint Fiducials

## FR107
designator D?
DIODE: FR 30V 1.3V@1A 500ns Independent Type 1A 1kV SOD-123FL Fast Recovery; LCSC Part #: C2902910
footprint SOD-123F-2 (SODFL3617X108N)
pins: 1, 2

## FRC0603F0000TS
designator R?
RES: 0 OHM 0603 1/4W; LCSC Part #: C2906974
footprint RRE: 0603
pins: 1, 2

## FRC2512F10R0TS
designator R?
RES: 10 OHM 1% 1W / 2512; LCSC Part #: C7467376
footprint 2512 RES (RESC6432X70N)
pins: 1, 2
text: 10R-2512

## FRC2512J1R5 TS
designator FS?
RES: 1.5 OHM 5% 1W 2512; LCSC Part #: C3013330
footprint 2512 RES (RESC6432X70N)
pins: 1, 2
text: 1.5R-2512

## FRC2512J203 TS
designator R?
RES: 20K OHM 1% 1W 2512; LCSC Part #: C2934096
footprint 2512 RES (RESC6432X70N)
pins: 1, 2
text: 20K-2512

## FRL1206FR300TS
designator R?
RES: 0.3OHM 1% 1/4W / 1206; LCSC Part #: C4410
footprint 1206-RES
pins: 1, 2
text: 0.3R-1206

## FRL2512JR600TS
designator R?
RES: 600m OHM 5% 1W / 2512; LCSC Part #: C7467376
footprint 2512 RES (RESC6432X70N)
pins: 1, 2
text: 600m-2512

## FSA0530-150MT
designator L?
INDUCTOR: 15uH 1.8A Integrated molded inductor ±20% 2.2A SMD,5.4x5.2mm; LCSC Part #: C41384342
footprint INDUCTOR D5.4X5.2
pins: 1, 2

## FSM100
designator S?
Alcoswitch FSM100-104, Tactile Switches, Round Actuator Style, Operating Function NO, Brass Contact Base Material; LCSC Part #: C6252471
footprint SW_1437565-2
pins: 1 COM, 2 COM, 3 NO, 4 NO

## Fuse BLX
designator F?, comment Fuse holder BLX-A
FUSE: 2A 20MM FUSE HOLDER; LCSC PART #: C3131
footprint Fuse BLX FP
footprint FUSE 20MM SMD SOLDER
pins: 1, 2

## Fuse BLX SMD
designator F?
FUSE: 2A 20MM FUSE HOLDER SMD; LCSC PART #: C3131
footprint FUSE 20MM SMD SOLDER
pins: 1, 2

## FXL0630-150-M
designator L?
INDUCTOR: 15UH 3A Integrated molded inductor ±20% 4.5A SMD,6.6x7mm; LCSC PART #: C177243
footprint INDUCTOR D6.6X7
pins: 1, 2

## GRM31A5C2H471JW01D
designator CY?
CAP: CER 470PF 500V C0G/NP0 1206; LCSC Part #: C408150
footprint 1206-CAP
pins: 1, 2
text: 470p

## GRM3195C2A223JA01D
designator C?
CAP: CER 0.022UF 100V C0GNP0 1206; LCSC Part #: C711005
footprint 1206-CAP
pins: 1, 2
text: .022uF

## HEADER 6P 2.54MM
designator PH?
HEADER: 6P 2.54MM FEMALE HEADER; LCSC PART #: C40877
footprint HEADER 6P 2.54MM FP
pins: 1, 2, 3, 4, 5, 6

## HLK-2M05
designator PS?
SMPS: 2W 5V Ultra-Compact Power Module HI LINK; LCSC PART #: C209909
footprint HLK-2M05
pins: 1 AC1, 2 AC2, 3 -VO, 4 +VO
text: 30x16x19mm(LWH)

## HLK-10M12
designator PS?
SMPS: 10W 833mA Ultra-Compact Power Module HI LINK; LCSC PART #: C403746
footprint HLK-10M12
pins: 1 AC1, 2 AC2, 3 -VO, 4 +VO

## HP06W2F5600T5E
designator R?
RES: 560 OHM 1% .5W 1206; LCSC Part #: C17966
footprint 1206-RES
pins: 1, 2
text: 560R-1206

## HP122WJ015JT4E
designator FS?
RES: 1.5 OHM 5% 2W 2512 300V; LCSC Part #: C2791233
footprint 2512 RES (RESC6432X70N)
pins: 1, 2
text: 1.5R-2512

## HT7150S
designator IC?
LDO: 100mA Fixed 5V Positive electrode 30V SOT-23; LCSC PART #: C347209
footprint SOT-23-3 - HT7150S
pins: 1 GND, 2 VIN, 3 VOUT
text: UMW

## HT7333
designator IC?
LDO: 300mA Fixed 3.3V Positive electrode 20V SOT-89; LCSC PART #: C19272223
footprint SOT89R
pins: 1 GND, 2 VIN (power), 3 VOUT, 4 VIN_PAD

## HX VH3.96-6P ZZ
designator CN?
CONN: 1x6P 1 VH 6P 3.96mm 6 7A Tin Phosphor Bronze Direct Insert Plugin,P=3.96mm Wire To Board Connector ROHS; LCSC Part #: C7435589
footprint LS-3.96*6
pins: 1, 2, 3, 4, 5, 6

## IAUC60N04S6L039ATMA1
designator Q?
MOSFET: N-CH 40 V 60A (Tc) 42W (Tc) / Package: PG-TDSON-8
footprint PG-TDSON-8
pins: 1 S_1, 2 S_2, 3 S_3, 4 G, 5 D_1, 6 D_2, 7 D_3, 8 D_4, 9 D_5, A1 S_4

## ICE3BR0665JXKLA1
designator U?
IC SMPS: OFFLINE SWITCH FLYBACK 8DIP; LCSC Part #: C3094647
footprint DIP-8 (DIP794W53P254L959H508Q8N)
pins: 1 BA, 2 FB, 3 CS, 4 Drain, 5 Drain, 6 NC, 7 VCC, 8 GND
text: Flyback Topology; SMPS Controller

## ICE5ASAG
designator U?
IC SMPS: OFFLINE SWITCH FLYBACK 8DSO/PG-DSO-8/SOIC-8; LCSC Part #: C535813
footprint SOIC-8N (SOIC127P600X175-8N)
pins: 1 VIN, 2 VERR, 3 FB, 4 CS, 5 SOURCE, 6 GATE, 7 VCC, 8 GND
text: Flyback Topology; PG-DSO-8; SMPS Controller

## IP5306
designator IC?
BAT Mng IC: Fully-Integrated Power Bank System-On-Chip with / 2.1A charger; LCSC PART #: C181692
footprint SOIC-8-EP
pins: 1 VIN, 2 LED1, 3 LED2, 4 LED3, 5 KEY, 6 BAT, 7 SW, 8 VOUT, 9 GND

## IRF530A
designator Q?
MOSFET: N-CH 100V 14A TO-220-3; LCSC Part #: C274639
footprint TO-220
pins: 1 G, 2 D, 3 S

## IRF530S-VB
designator Q?
MOSFET: 100V 20A 105W 3V 1 N-channel TO-263-2 MOSFETs ROHS; LCSC Part #: C693128
footprint TO-263-2 SMD
pins: 1 G, 2 D, 3 S

## IRF3205PBF
designator Q?
MOSFET: N Channel 55V 110A 8mΩ@10V,62A 200W 4V 1 N-channel TO-220AB MOSFETs ROHS; LCSC Part #: C2561
pins: 1 G, 2 D, 3 S

## IRM-3638L
designator IR?
IR: 6m 330uA 2.7V~5.5V SIP-3-2.54mm Infrared Remote Receiver (IRM) ROHS; LCSC Part #: C2936550
footprint IRM 3638L
pins: 1 OUT, 2 GND, 3 VCC

## JRES
designator JR?
footprint 1206-RES
pins: 1, 2
text: JR

## JST 3P (B3B-XH-AM)
designator J?
JST: 1x3P 3P XH Tin 3 -25℃~+85℃ 3A 1 2.5mm Brass Straight Plugin,P=2.5mm Wire To Board Connector ROHS; LCSC Part #: C161870
footprint JST 3P B3B-XH-AM (2.50mm)
pins: 1, 2, 3

## JST 4P (B4B-XH-A)
designator J?, comment JST 4P
JST: 4P, P=2.5mm Wire To Board Connector ROHS; LCSC Part #: C144395
footprint JST 4P (B4B-XH-A) (JST 4P P2.54mm)
pins: 1, 2, 3, 4

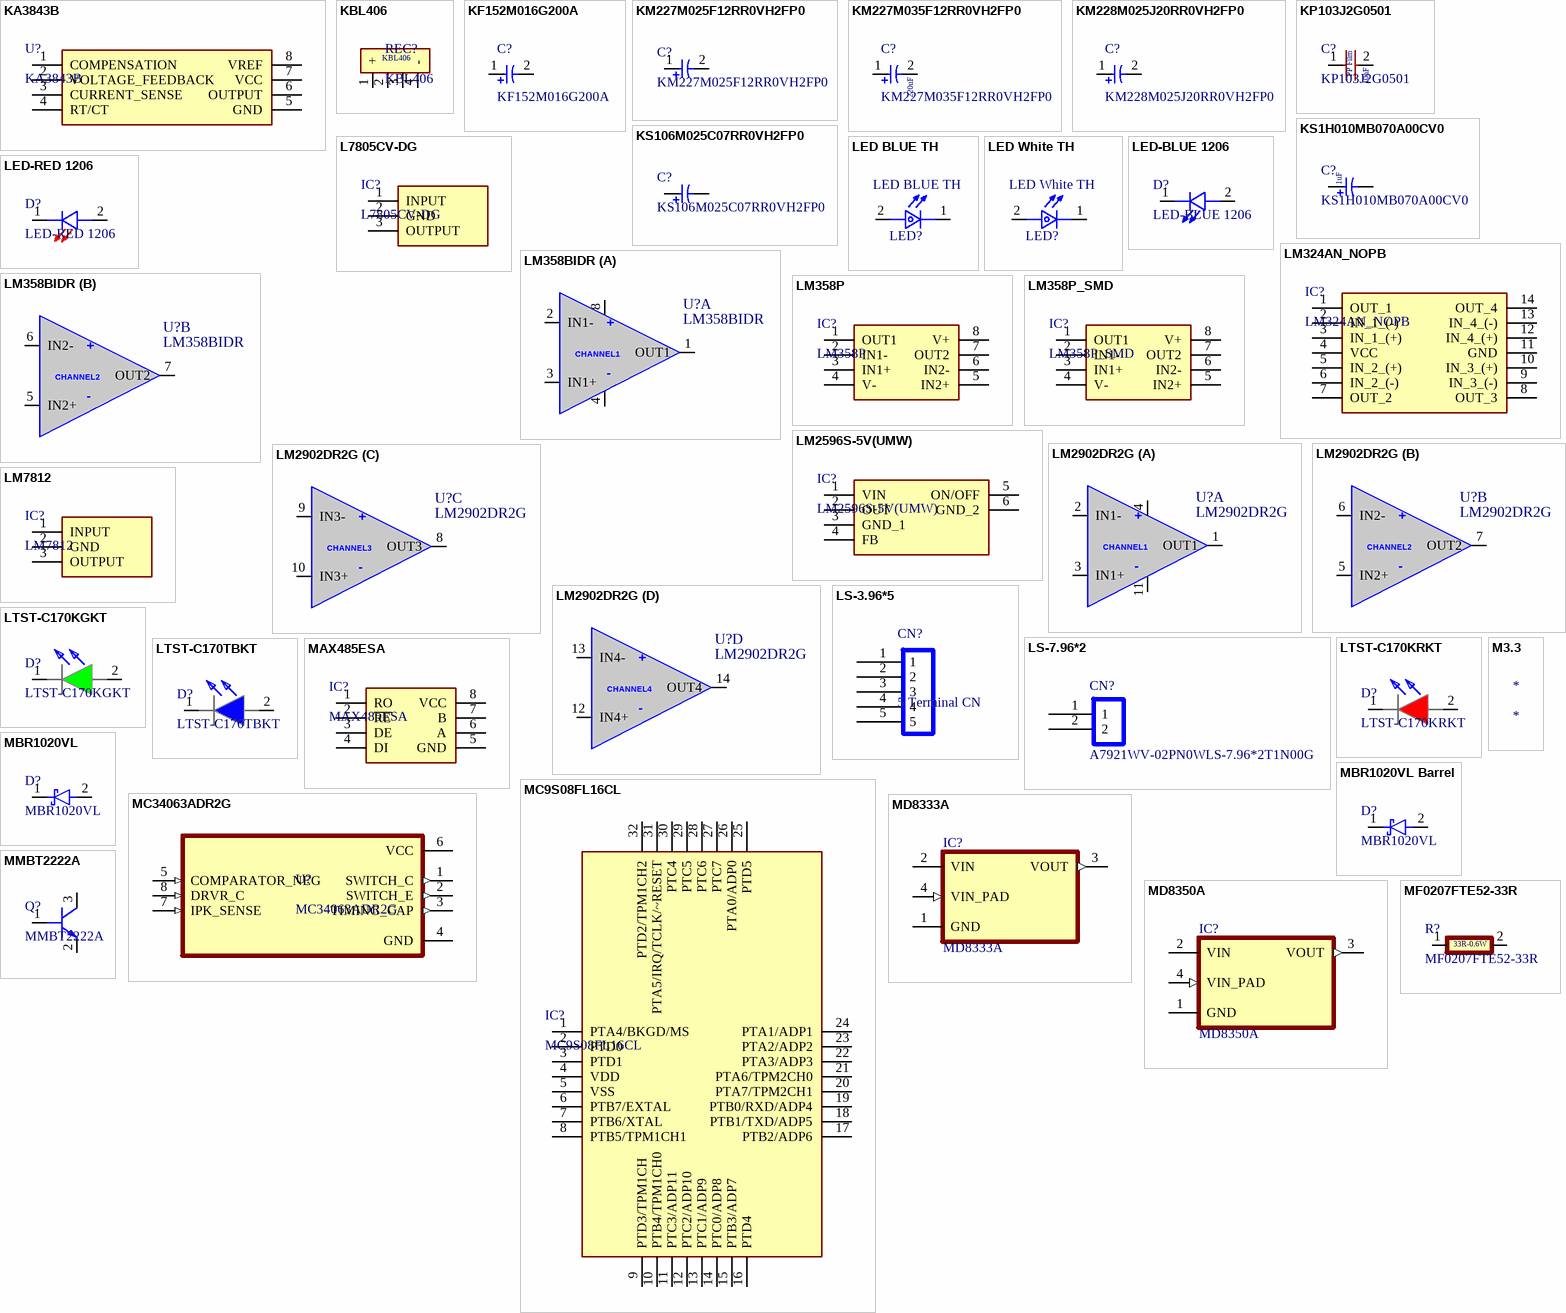
[diagram p5: symbols KA3843B to MMBT2222A]

## KA3843B
designator U?
IC SMPS: 500kHz 12V~25V DIP-8 AC-DC Controllers and Regulators ROHS; LCSC Part #: C184548
footprint DIP-8 (DIP794W53P254L959H508Q8N)
pins: 1 COMPENSATION, 2 VOLTAGE_FEEDBACK, 3 CURRENT_SENSE, 4 RT/CT, 5 GND, 6 OUTPUT, 7 VCC, 8 VREF

## KBL406
designator REC?
RECTIFIER: TH 200A 1.1V@4A 4A 600V KBL; LCSC Part #: C3078
footprint KBL406
pins: 1 +, 2, 3, 4 -

## KF152M016G200A
designator C?
CAP: ALUM 1500uF 20% 16V LS-5.0mm D10 H20; LCSC Part #: C59359
footprint CAP LS-5.0mm D10 H20
pins: 1, 2

## KM227M025F12RR0VH2FP0
designator C?
CAP: ALUM 220UF 20% 25V RADIAL TH / LS-3.5mm D8 H13; LCSC Part #: C43837
footprint CAP LS-3.5mm D8 H11 (CAP LS-3.5mm D8)
pins: 1, 2

## KM227M035F12RR0VH2FP0
designator C?
CAP: ALUM 220uF 35V ±20% Plugin,D8xL12mm Electrolytic Capacitors - Leaded ROHS; LCSC Part #: C2063
footprint CAPPRD500W60D1000H1250
pins: 1, 2
text: 220uF

## KM228M025J20RR0VH2FP0
designator C?
CAP: ALUM 2200uF 20% 25V; LCSC Part #: C44598
footprint CAP LS-5.0mm D10 H20
pins: 1, 2

## KP103J2G0501
designator C?
CAP: PP Film 10nF 400V 5% / p = 5mm; LCSC Part #: C3019055
footprint CAP-Film-5mm
pins: 1, 2
text: PP Film; 10nF

## KS1H010MB070A00CV0
designator C?
CAP: ALUM 1UF 20% 50V RADIAL TH / LS 1.5mm D 5mm H 7mm; LCSC Part #: C216323
footprint CAP LS-1.5mm D4 H5
pins: 1, 2
text: 1uF

## KS106M025C07RR0VH2FP0
designator C?
CAP: ALUM 10UF 20% 25V RADIAL TH / LS 1.5mm / Dia 4mm; LCSC Part #: C43351
footprint CAP LS-1.5mm D4 H5
pins: 1, 2

## L7805CV-DG
designator IC?
REGULATOR: 1.5A Fixed 5V Positive electrode 35V TO-220 Voltage Regulators - Linear, Low Drop Out (LDO) Regulators ROHS; LCSC Part #: C3795
footprint LM7805  TO254
pins: 1 INPUT, 2 GND, 3 OUTPUT

## LED BLUE TH
designator LED?
LED: BLUE, Through Hole, T-1 3/4 (5mm), 30 mA, 2.1 V, 635 nm
footprint TSSOP-20
pins: 1, 2

## LED White TH
designator LED?
LED: White, Through Hole, T-1 3/4 (5mm), 30 mA, 2.1V / LS-5MM; LCSC Part #: C7470709
footprint LED_5mm P5MM WHITE
pins: 1, 2

## LED-BLUE 1206
designator D?
LED: 460nm~475nm Blue 120° 100mW 1206 LED; LCSC Part #: C434440
footprint LED BLUE 1206 (1206)
pins: 1, 2

## LED-RED 1206
designator D?
LED: 20mA 615nm~630nm Red 120° 50mW 2.4V 1206; LCSC Part #: C965822
footprint LED RED 1206 (1206)
pins: 1, 2

## LM324AN_NOPB
designator IC?
IC: DIP-14 Operational Amplifier ROHS; LCSC Part #: C42421973
footprint PDIP-14 (DIP794W66P254L1954H508Q14N)
pins: 1 OUT_1, 2 IN_1_(-), 3 IN_1_(+), 4 VCC, 5 IN_2_(+), 6 IN_2_(-), 7 OUT_2, 8 OUT_3, 9 IN_3_(-), 10 IN_3_(+), 11 GND, 12 IN_4_(+), 13 IN_4_(-), 14 OUT_4

## LM358BIDR
designator U?
Dual 35nA 0.5V/us 1.2MHz 3mV SOIC-8 Operational Amplifier ROHS; LCSC Part #: C1850238
footprint SOIC-8N (SOIC127P600X175-8N)
part A pins: 1 OUT1, 2 IN1-, 3 IN1+, 4 GND, 8 VCC
part B pins: 5 IN2+, 6 IN2-, 7 OUT2
part A text: +; CHANNEL1; -
part B text: +; CHANNEL2; -

## LM358P
designator IC?
OPAMP: GP 2 CIRCUIT 8DIP; LCSC Part #: C5213
footprint DIP-8 (DIP794W53P254L959H508Q8N)
pins: 1 OUT1, 2 IN1-, 3 IN1+, 4 V-, 5 IN2+, 6 IN2-, 7 OUT2, 8 V+

## LM358P_SMD
designator IC?
OPAMP: GP 2 CIRCUIT 8DIP; LCSC Part #: C5423
footprint SOP-8 (SOIC127P650X180-8N)
pins: 1 OUT1, 2 IN1-, 3 IN1+, 4 V-, 5 IN2+, 6 IN2-, 7 OUT2, 8 V+

## LM2596S-5V(UMW)
designator IC?
SMPS: IC REG BUCK 5V 3A DDPAK / TO-263-5; LCSC PART #: C347421
footprint TO-263-5
pins: 1 VIN, 2 OUT, 3 GND_1, 4 FB, 5 ON/OFF, 6 GND_2

## LM2902DR2G
designator U?
QUAD 300nA 5mV SOIC-14 Operational Amplifier ROHS; LCSC Part #: C57473
footprint SOIC-14N
part A pins: 1 OUT1, 2 IN1-, 3 IN1+, 4 VCC, 11 GND
part B pins: 5 IN2+, 6 IN2-, 7 OUT2
part C pins: 8 OUT3, 9 IN3-, 10 IN3+
part D pins: 12 IN4+, 13 IN4-, 14 OUT4
part A text: +; CHANNEL1; -
part B text: +; CHANNEL2; -
part C text: +; CHANNEL3; -
part D text: +; CHANNEL4; -

## LM7812
designator IC?
IC: 55dB@(120Hz) 1.5A Fixed 12V Positive electrode 35V TO-220-3 Voltage Regulators - Linear, Low Drop Out (LDO) Regulators ROHS; LCSC Part #: C7432223
footprint TO-220
pins: 1 INPUT, 2 GND, 3 OUTPUT

## LS-3.96*5
designator CN?, comment 5 Terminal CN
CONNECTOR: 3.96*5; LCSC Part #: C5379871
footprint LS-3.96*5
pins: 1, 2, 3, 4, 5

## LS-7.96*2
designator CN?, comment A7921WV-02PN0WLS-7.96*2T1N00G
CONNECTOR: 7.96*2
footprint LS-7.92*2
pins: 1, 2

## LTST-C170KGKT
designator D?
LED: GREEN 20mA 35mcd Colorless-55℃~+85℃ 571nm Yellow-green 130° 75mW 2V 0805; LCSC PART #: C98221
footprint 0805-LED-GREEN (0805-LED)
pins: 1 K, 2 A

## LTST-C170KRKT
designator D?
LED: RED 20mA 54mcd Colorless Transparent Lens -55℃~+85℃ 631nm Red 130° 75mW 2V 0805 LED; LCSC PART #: C94868
footprint 0805-LED-RED (0805-LED)
pins: 1 K, 2 A

## LTST-C170TBKT
designator D?
LED: BLUE 20mA 104mcd Colorless Transparent Lens -20℃~+80℃ 465nm~475nm Blue 130° 76mW 3.3V 0805 LED; LCSC PART #: C98222
footprint 0805-LED-BLUE (0805-LED)
pins: 1 K, 2 A

## M3.3
designator *

## MAX485ESA
designator IC?
MODBUS: IC TRANSCEIVER HALF 1/1 8SOP; LCSC PART #: C668206
footprint SOP-8 (SOIC127P650X180-8N)
pins: 1 RO, 2 ~{RE}, 3 DE, 4 DI, 5 GND, 6 A, 7 B, 8 VCC

## MBR1020VL
designator D?
DIODE: SCHOTTKY 20V 1A SOD123F; LCSC Part #: C191986
footprint SOD-123F-2 (SODFL3617X108N)
pins: 1, 2

## MBR1020VL Barrel
designator D?, comment MBR1020VL
DIODE: SCHOTTKY 20V 1A SOD123F
footprint SOD-123F (SODFL3617X108N)
pins: 1, 2

## MC9S08FL16CL
designator IC?
MCU: 20MHz LQFP-32(7x7) Microcontrollers (MCU/MPU/SOC) ROHS; LCSC Part #: C782303
footprint LQFP-32 (QFP80P900X900X160-32N)
pins: 1 PTA4/BKGD/MS, 2 PTD0, 3 PTD1, 4 VDD, 5 VSS, 6 PTB7/EXTAL, 7 PTB6/XTAL, 8 PTB5/TPM1CH1, 9 PTD3/TPM1CH, 10 PTB4/TPM1CH0, 11 PTC3/ADP11, 12 PTC2/ADP10, 13 PTC1/ADP9, 14 PTC0/ADP8, 15 PTB3/ADP7, 16 PTD4, 17 PTB2/ADP6, 18 PTB1/TXD/ADP5, 19 PTB0/RXD/ADP4, 20 PTA7/TPM2CH1, 21 PTA6/TPM2CH0, 22 PTA3/ADP3, 23 PTA2/ADP2, 24 PTA1/ADP1, 25 PTD5, 26 PTA0/ADP0, 27 PTC7, 28 PTC6, 29 PTC5, 30 PTC4, 31 PTA5/IRQ/TCLK/~RESET, 32 PTD2/TPM1CH2

## MC34063ADR2G
designator U?
Adjustable 1.25V~40V 3V~40V 1.5A SOIC-8 DC-DC Converters ROHS; LCSC Part #: C32078
footprint SOIC-8N (SOIC127P600X175-8N)
pins: 1 SWITCH_C (out), 2 SWITCH_E (out), 3 TIMING_CAP (out), 4 GND (power), 5 COMPARATOR_NEG (in), 6 VCC (power), 7 IPK_SENSE (in), 8 DRVR_C (in)

## MD8333A
designator IC?
LDO: 300mA SOT-89-3 Voltage Regulators - Linear, (LDO); LCSC PART #: C2978363
footprint SOT89R
pins: 1 GND, 2 VIN (power), 3 VOUT, 4 VIN_PAD

## MD8350A
designator IC?
LDO: 300mA SOT-89-3 Voltage Regulators - Linear, Low Drop Out (LDO); LCSC PART #: C1884527
footprint SOT89R
pins: 1 GND, 2 VIN (power), 3 VOUT, 4 VIN_PAD

## MF0207FTE52-33R
designator R?
RES:  TH  33Ω 0.6W ±50ppm/℃ ±1%D2.4xL6.3mm; LCSC Part #: C1375039
footprint R TH LS 7.5 (Res_TH 3W)
pins: 1, 2
text: 33R-0.6W

## MMBT2222A
designator Q?
TRANSISTOR: 40V 225mW 600mA NPN Bipolar (BJT) / SOT-23-3; LCSC PART #: C545537
footprint SOT-23-3
pins: 1 B, 2 E, 3 C

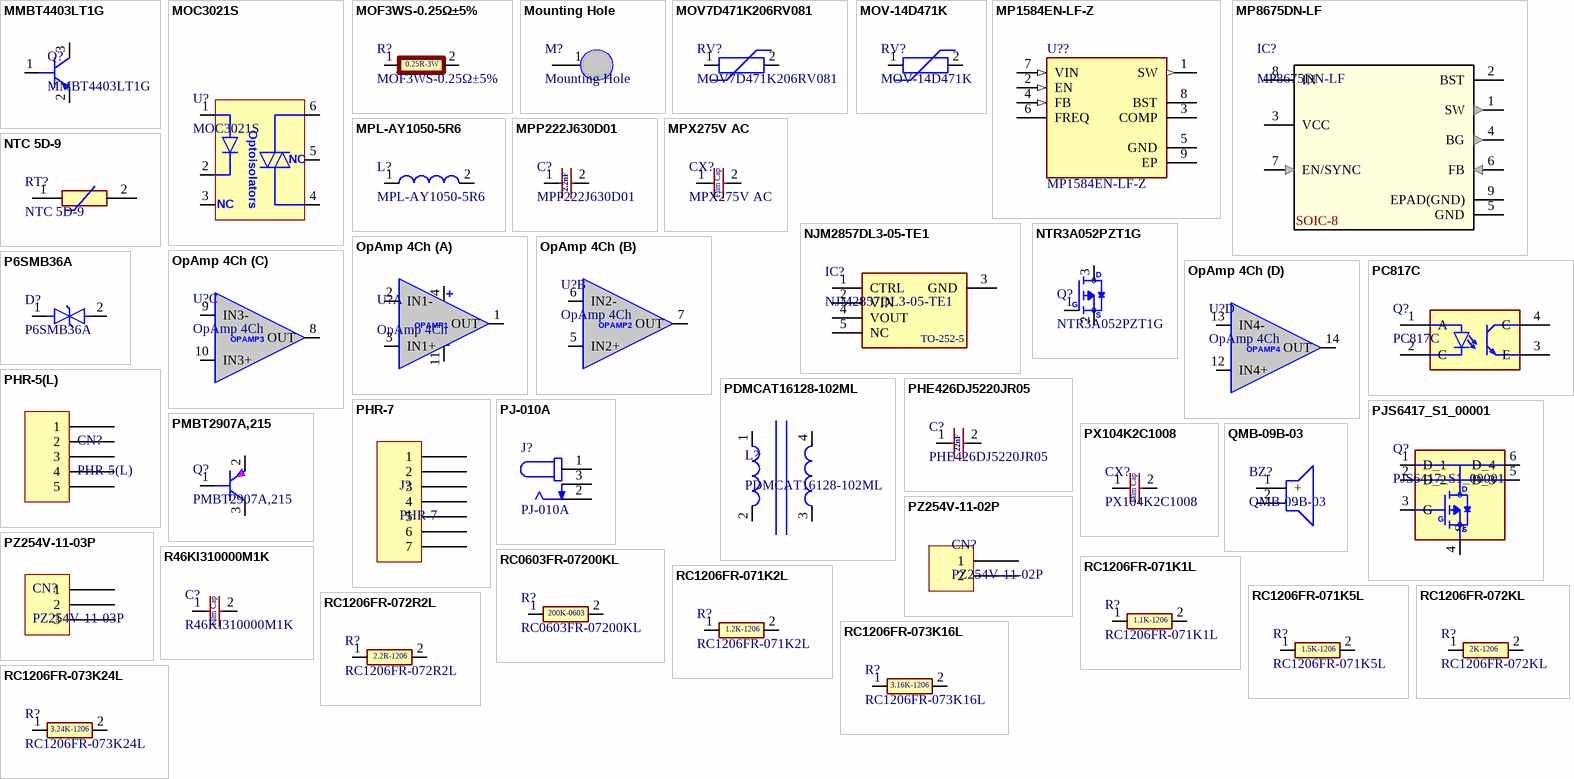
[diagram p6: symbols MMBT4403LT1G to RC1206FR-073K24L]

## MMBT4403LT1G
designator Q?
TRANSISTOR: 40V 225mW 600mA PNP Bipolar (BJT) / SOT-23-3; LCSC PART #: C78864
footprint SOT-23-3
pins: 1 B, 2 E, 3 C